# Altium schematic symbol library TOTUDU.SCHLIB: 75 symbols (part 1 of 2)
Pins are listed as number, name and electrical type; pins without a type are passive.

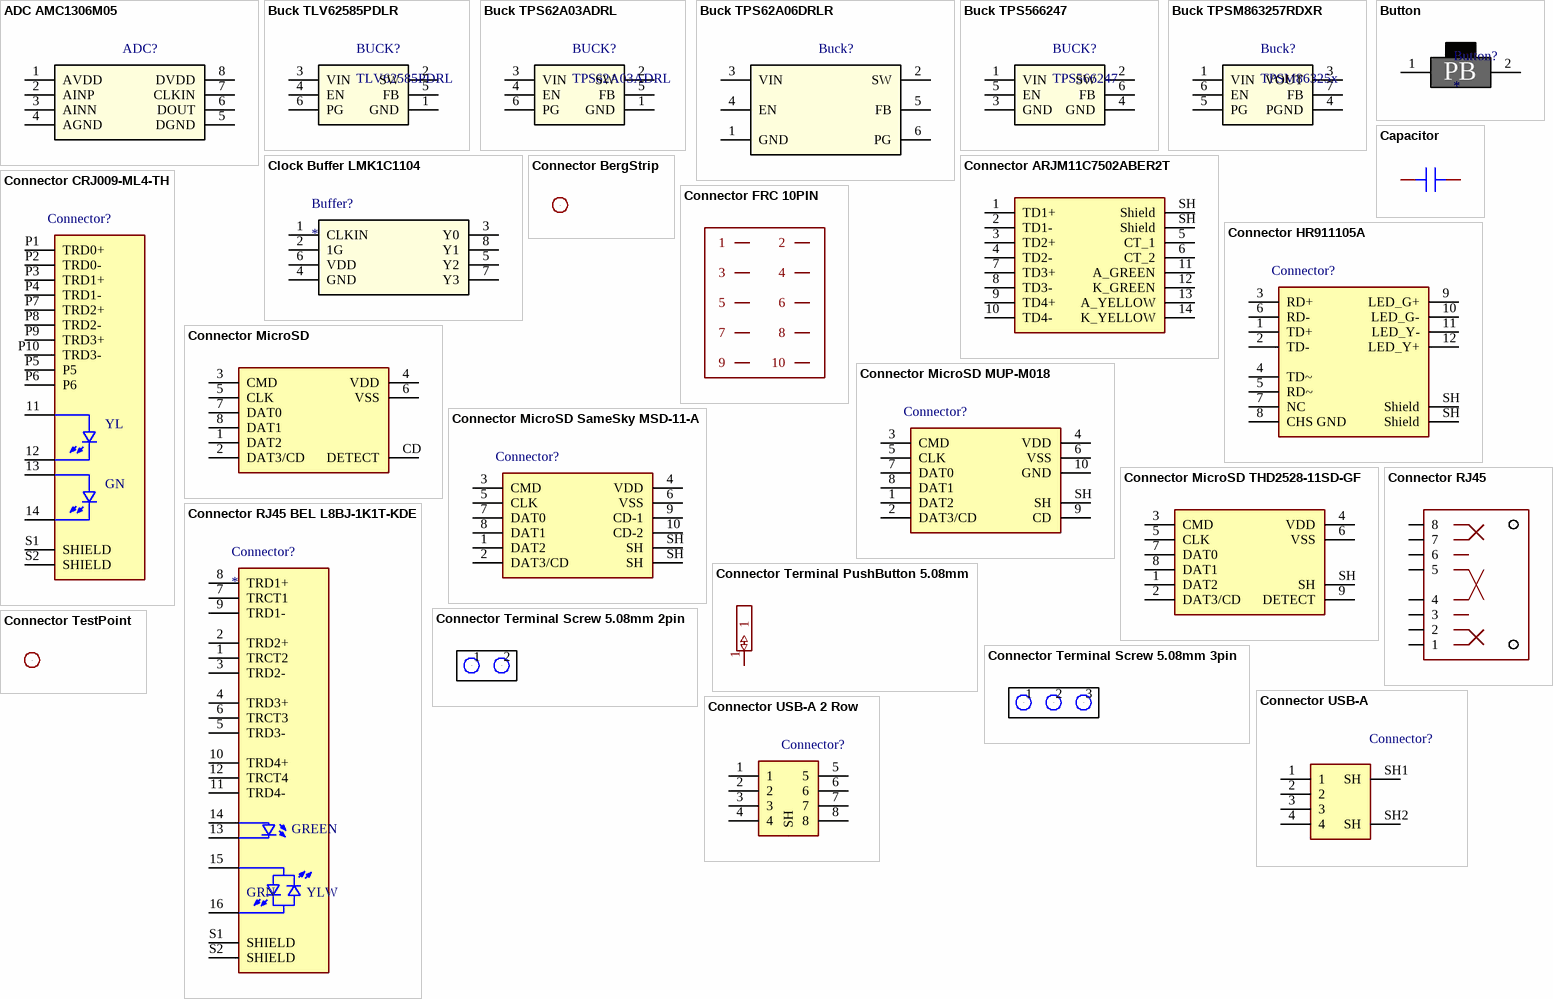
[diagram p0: symbols ADC AMC1306M05 to Connector USB-A 2 Row]

## ADC AMC1306M05
designator ADC?
Isolated Delta-Sigm; Manufacturer_Name: Texas Instruments; Manufacturer_Part_Number: AMC1306M05DWV; TYPE: TYPE; RefDes: RefDes; Copyright: Copyright (C) 2025 Ultra Librarian. All rights reserved.; Datasheet: https://www.ti.com/lit/gpn/amc1306m05
footprint AMC1306M05
pins: 1 AVDD, 2 AINP, 3 AINN, 4 AGND, 5 DGND, 6 DOUT, 7 CLKIN, 8 DVDD

## Buck TLV62585PDLR
designator BUCK?, comment TLV62585PDRL
Buck 3A 1500Mhz; Manufacturer_Name: Texas Instruments; Manufacturer_Part_Number: XTPS566247DRLR; Price: Rs. 24
footprint TPS62A03ADLR
pins: 1 GND, 2 SW, 3 VIN, 4 EN, 5 FB, 6 PG

## Buck TPS62A03ADRL
designator BUCK?, comment TPS62A03ADRL
Buck 3A 2200Mhz; Manufacturer_Name: Texas Instruments; Manufacturer_Part_Number: XTPS566247DRLR; Price: Rs. 21
footprint TPS62A03ADLR
pins: 1 GND, 2 SW, 3 VIN, 4 EN, 5 FB, 6 PG

## Buck TPS62A06DRLR
designator Buck?
Buck Converter; Mfr_Name: Texas Instruments; TYPE: TYPE; RefDes: RefDes
footprint Buck TPS62A06DRLR
pins: 1 GND, 2 SW, 3 VIN, 4 EN, 5 FB, 6 PG

## Buck TPS566247
designator BUCK?, comment TPS566247
Buck 6A; Manufacturer_Name: Texas Instruments; Manufacturer_Part_Number: XTPS566247DRLR
footprint TPS566247DRLR
pins: 1 VIN, 2 SW, 3 GND, 4 GND, 5 EN, 6 FB

## Buck TPSM863257RDXR
designator Buck?, comment TPSM86325x
Buck Module 3A; Manufacturer_Name: Texas Instruments; Manufacturer_Part_Number: PTPSM863257RDXR; Datasheet: https://www.ti.com/lit/gpn/tpsm863257
footprint TPSM863257RDXR
pins: 1 VIN (power), 3 VOUT (power), 4 PGND (power), 5 PG (oc), 6 EN, 7 FB

## Button
designator Button?
footprint PushButton PBS-06-112-25
footprint PushButton TSB008A25
pins: 1, 2
text: PB

## Capacitor
designator C?
Capacitor
footprint Capacitor 2012(0805)
footprint Capacitor 1608(0603)
footprint Capacitor 1005(0402)
footprint Capacitor 6.3x7.7
pins: 1, 2

## Clock Buffer LMK1C1104
designator Buffer?
Clock Buffer; Mfr_Name: Texas Instruments; TYPE: TYPE; RefDes: RefDes
footprint LMK1C1104PWR
pins: 1 CLKIN, 2 1G, 3 Y0, 4 GND, 5 Y2, 6 VDD, 7 Y3, 8 Y1

## Connector ARJM11C7502ABER2T
designator Connector?
RJ45 With Magnetics 10/100/1000Mbps; Manufacturer_Name: ABRACON; Manufacturer_Part_Number: ARJM11C7-502-AB-ER2-T; Datasheet Link: https://abracon.com/Magnetics/ARJM11.pdf; Height: 13.7mm; Mouser Part Number: 815-RJM11C7502ABER2T; Mouser Price/Stock: https://www.mouser.co.uk/ProductDetail/ABRACON/ARJM11C7-502-AB-ER2-T?qs=YCa%2FAAYMW01Li4L1TO4qtw%3D%3D; Arrow Part Number: ARJM11C7-502-AB-ER2-T; Arrow Price/Stock: https://www.arrow.com/en/products/arjm11c7-502-ab-er2-t/abracon?utm_currency=USD&region=nac
footprint ARJM11C7502ABER2T
pins: 1 TD1+, 2 TD1-, 3 TD2+, 4 TD2-, 5 CT_1, 6 CT_2, 7 TD3+, 8 TD3-, 9 TD4+, 10 TD4-, 11 A_GREEN, 12 K_GREEN, 13 A_YELLOW, 14 K_YELLOW, SH Shield, SH Shield

## Connector BergStrip
designator Connector?
BergStrip
footprint BergStrip 2.00mm
footprint BergStrip 2.54mm
pins: 1 Pin

## Connector CRJ009-ML4-TH
designator Connector?
RJ45 With Magnetics 10/100/1000Mbps; MP: CRJ009-ML4-TH; MF: {'manufacturer': u'CUI'}; Price: None; Package: None; Availability: Unavailable; Value: *
footprint MagJack 8P9C (CRJ009-ML4-TH)
pins: 11, 12, 13, 14, P1 TRD0+, P2 TRD0-, P3 TRD1+, P4 TRD1-, P5, P6, P7 TRD2+, P8 TRD2-, P9 TRD3+, P10 TRD3-, S1 SHIELD, S2 SHIELD
text: YL; GN

## Connector FRC 10PIN
designator FRC?
FRC 10 Pin; GateName_1: G$1; SymbolName_1: FRC_10PIN; LibraryName: TOTUDU; DeviceSetName: FRC_10PIN; Package: FRC_SOCKET_10PIN
footprint FRC_SOCKET_10PIN
pins: 1 (io), 2 (io), 3 (io), 4 (io), 5 (io), 6 (io), 7 (io), 8 (io), 9 (io), 10 (io)

## Connector HR911105A
designator Connector?
RJ45 With Magnetics 10/100Mbps
footprint RJ45 HR911105A
pins: 1 TD+, 2 TD-, 3 RD+, 4 TD~, 5 RD~, 6 RD-, 7 NC, 8 CHS GND, 9 LED_G+, 10 LED_G-, 11 LED_Y-, 12 LED_Y+, SH Shield, SH Shield

## Connector MicroSD
designator Connector?
MicroSD Slot; Manufacturer_Name: Hirose; Manufacturer_Part_Number: DM3AT-SF-PEJM5(40); Geometry.Height: 1.83mm; Mouser Part Number: 798-DM3AT-SF-PEJM540; Mouser Price/Stock: https://www.mouser.co.uk/ProductDetail/Hirose-Connector/DM3AT-SF-PEJM540?qs=0WLLhGLuJYzPvbo0KPPEoQ%3D%3D; Datasheet Link: https://componentsearchengine.com/Datasheets/2/DM3AT-SF-PEJM5(40).pdf
footprint MicroSD Connector
footprint MicroSD Connector MEM2085
pins: 1 DAT2, 2 DAT3/CD, 3 CMD, 4 VDD, 5 CLK, 6 VSS, 7 DAT0, 8 DAT1, CD DETECT

## Connector MicroSD MUP-M018
designator Connector?
MicroSD Slot
footprint MicroSD MUP-M018
pins: 1 DAT2, 2 DAT3/CD, 3 CMD, 4 VDD, 5 CLK, 6 VSS, 7 DAT0, 8 DAT1, 9 CD, 10 GND, SH

## Connector MicroSD SameSky MSD-11-A
designator Connector?
MicroSD Slot; Link: https://roboticsdna.in/product/micro-sd-card-socket-adapter-self-pop-up-memory-card-slot-holder-2-pcs/; Price: Rs. 11
footprint MicroSD SameSky MSD-11-A
pins: 1 DAT2, 2 DAT3/CD, 3 CMD, 4 VDD, 5 CLK, 6 VSS, 7 DAT0, 8 DAT1, 9 CD-1, 10 CD-2, SH, SH

## Connector MicroSD THD2528-11SD-GF
designator Connector?
MicroSD Slot; Manufacturer_Name: Hirose; Manufacturer_Part_Number: DM3AT-SF-PEJM5(40); Geometry.Height: 1.83mm; Mouser Part Number: 798-DM3AT-SF-PEJM540; Mouser Price/Stock: https://www.mouser.co.uk/ProductDetail/Hirose-Connector/DM3AT-SF-PEJM540?qs=0WLLhGLuJYzPvbo0KPPEoQ%3D%3D; Datasheet Link: https://componentsearchengine.com/Datasheets/2/DM3AT-SF-PEJM5(40).pdf
footprint MicroSD Connector THD2528-11SD-GF
pins: 1 DAT2, 2 DAT3/CD, 3 CMD, 4 VDD, 5 CLK, 6 VSS, 7 DAT0, 8 DAT1, 9 DETECT, SH

## Connector RJ45
designator Connector?
8P8C Generic Robu.in RoboticsDNA; GateName_1: JP1; SymbolName_1: RJ45; DeviceName: NOSHIELD; LibraryName: TOTUDU; DeviceSetName: RJ45; Package: RJ45-NOSHIELD
footprint RJ45-8P8C Generic (Robu.in RoboticsDNA)
pins: 1, 2, 3, 4, 5, 6, 7, 8, SH1, SH2

## Connector RJ45 BEL L8BJ-1K1T-KDE
designator Connector?
RJ45 With Magnetics 10/100/1000Mbps; MP: L8BJ-1K1T-KDE; Package: None; Price: None; Value: *; Availability: Unavailable
footprint MagJack 8P12C (BEL L8BJ-1K1T-KDE)
pins: 1 TRCT2, 2 TRD2+, 3 TRD2-, 4 TRD3+, 5 TRD3-, 6 TRCT3, 7 TRCT1, 8 TRD1+, 9 TRD1-, 10 TRD4+, 11 TRD4-, 12 TRCT4, 13, 14, 15, 16, S1 SHIELD, S2 SHIELD
text: GREEN; GRN; YLW

## Connector Terminal PushButton 5.08mm
designator Connector?
Terminal PushButton 5.08mm; GateName_1: G$1; SymbolName_1: TERMINAL1X1; DeviceName: STACKED; DeviceSetName: PUSHFIT5.08; LibraryName: TOTUDU; Package: PUSHFITSTACKED5.08
footprint Terminal PushButton 5.08mm Stacked
footprint Terminal PushButton 5.08mm Single
pins: 1 (io)

## Connector Terminal Screw 5.08mm 2pin
designator Connector?
Terminal Screw 5.08mm; GateName_1: G$1; SymbolName_1: TERMINALBLOCK1X2; DeviceSetName: TERMINALBLOCK-1X2; LibraryName: TOTUDU; Package: SCREWTERMINAL1X2
footprint Terminal Screw 5.08mm 2pin
pins: 1, 2

## Connector Terminal Screw 5.08mm 3pin
designator Connector?
Terminal Screw 5.08mm; GateName_1: G$1; SymbolName_1: TERMINALBLOCK1X2; DeviceSetName: TERMINALBLOCK-1X2; LibraryName: TOTUDU; Package: SCREWTERMINAL1X2
footprint Terminal Screw 5.08mm 3pin (Footprint not found)
pins: 1, 2, 3

## Connector TestPoint
designator Connector?
TestPoint
footprint TestPoint
pins: 1 Pin

## Connector USB-A
designator Connector?
Connector USB-A; Manufacturer_Name: TE Connectivity; Manufacturer_Part_Number: 292303-3; Geometry.Height: 7.01mm; Mouser Part Number: 571-292303-3; Mouser Price/Stock: https://www.mouser.co.uk/ProductDetail/TE-Connectivity/292303-3?qs=G%2F5vCLrg9vxY8f06bslZ%252Bw%3D%3D; Datasheet Link: https://www.arrow.com/en/products/292303-3/te-connectivity
footprint Connector USB-A
pins: 1, 2, 3, 4, SH1 SH, SH2 SH

## Connector USB-A 2 Row
designator Connector?
Connector USB-A 2 Row; Manufacturer_Name: Wurth Elektronik; Manufacturer_Part_Number: 61400826021; Datasheet Link: https://katalog.we-online.com/em/datasheet/61400826021.pdf; Mouser Part Number: 710-61400826021; Mouser Price/Stock: https://www.mouser.co.uk/ProductDetail/Wurth-Elektronik/61400826021?qs=rS3zZhy2AQNRjP3Vs%2FPxTg%3D%3D
footprint Connector USB-A 2 Row
pins: 1, 2, 3, 4, 5, 6, 7, 8, SH

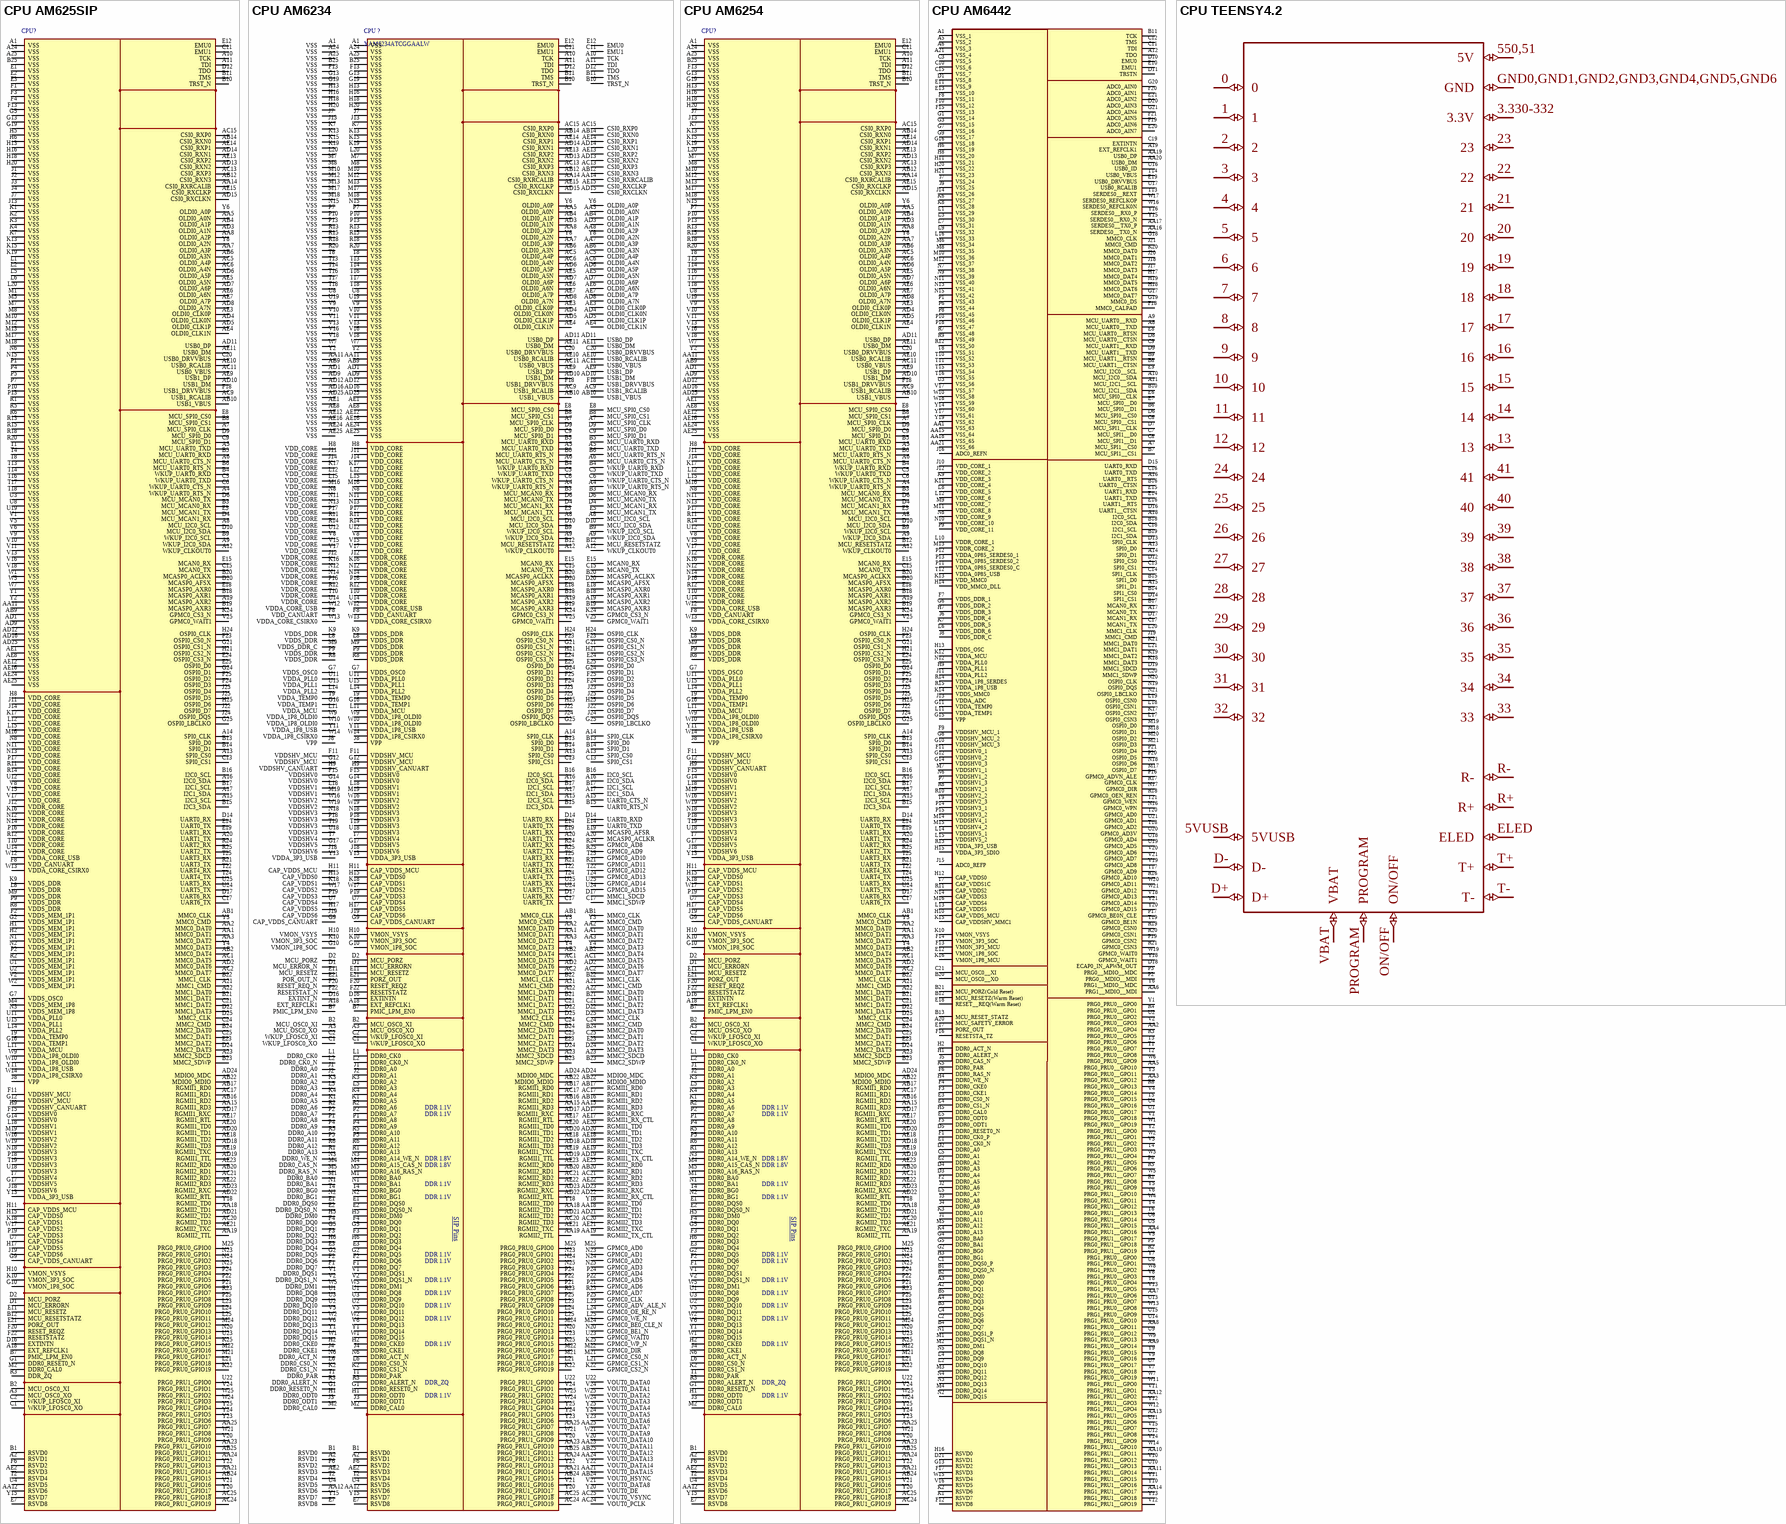
[diagram p1: symbols CPU AM625SIP to CPU TEENSY4.2]

## CPU AM625SIP
designator CPU?
Quad Core A53 512MB RAM; ComponentLink1Description: Link; ComponentLink1URL: https://www.ti.com/product/AM625SIP; Price: Rs. 3113
footprint AM625SIP
pins: A1 VSS, A2 RSVD1, A3 MCU_OSC0_XO, A4 WKUP_UART0_RTS_N, A5 MCU_UART0_TXD, A6 MCU_UART0_CTS_N, A7 MCU_SPI0_CLK, A8 MCU_I2C0_SCL, A9 WKUP_I2C0_SDA, A10 TCK, A11 TDI, A12 WKUP_CLKOUT0, A13 SPI0_CS0, A14 SPI0_CLK, A15 I2C3_SCL, A16 I2C0_SDA, A17 I2C1_SDA, A18 EXT_REFCLK1, A19 MCASP0_AXR2, A20 UART1_TX, A21 MMC1_CMD, A22 MMC1_DAT0, A23 MMC2_SDCD, A24 VSS, A25 VSS, AA1 MMC0_DAT1, AA2 MMC0_DAT0, AA3 MMC0_DAT2, AA5 OLDI0_A0N, AA7 OLDI0_A3P, AA8 OLDI0_A2P, AA11 VSS, AA12 RSVD6, AA14 CSI0_RXRCALIB, AA15 RGMII1_RD3, AA18 RGMII2_TD1, AA19 RGMII2_TTL, AA21 PRG0_PRU1_GPIO14, AA23 PRG0_PRU1_GPIO10, AA24 PRG0_PRU1_GPIO12, AA25 PRG0_PRU1_GPIO7, AB1 MMC0_CLK, AB2 MMC0_DAT4, AB4 OLDI0_A1P, AB6 OLDI0_A3N, AB9 VSS, AB10 USB1_VBUS, AB12 CSI0_RXN3, AB14 CSI0_RXN0, AB16 RGMII1_RD2, AB17 RGMII1_RD0, AB20 RGMII2_RD1, AB22 MDIO0_MDIO, AB24 PRG0_PRU1_GPIO15, AB25 PRG0_PRU1_GPIO11, AC1 MMC0_DAT5, AC2 MMC0_DAT7, AC5 OLDI0_A4P, AC6 OLDI0_A4N, AC9 USB1_RCALIB, AC11 USB0_VBUS, AC13 CSI0_RXP3, AC15 CSI0_RXP0, AC17 RGMII1_RD1, AC20 RGMII2_TD3, AC21 RGMII2_RD2, AC24 PRG0_PRU1_GPIO19, AC25 PRG0_PRU1_GPIO1~{8}, AD1 VSS, AD2 MMC0_DAT6, AD3 OLDI0_A1N, AD4 OLDI0_CLK0N, AD5 OLDI0_CLK1P, AD6 OLDI0_A5P, AD7 OLDI0_A6P, AD8 OLDI0_A7N, AD9 VSS, AD10 USB1_DM, AD11 USB0_DP, AD12 VSS, AD13 CSI0_RXN2, AD14 CSI0_RXN1, AD15 CSI0_RXCLKN, AD16 VSS, AD17 RGMII1_RXC, AD18 RGMII1_TD3, AD19 RGMII1_TTL, AD20 RGMII1_TD1, AD21 RGMII2_TD2, AD22 RGMII2_RTL, AD23 RGMII2_RXC, AD24 MDIO0_MDC, AD25 VSS, AE1 VSS, AE2 RSVD3, AE3 OLDI0_CLK0P, AE4 OLDI0_CLK1N, AE5 OLDI0_A5N, AE6 OLDI0_A6N, AE7 OLDI0_A7P, AE8 VSS, AE9 USB1_DP, AE10 USB0_RCALIB, AE11 USB0_DM, AE12 VSS, AE13 CSI0_RXP2, AE14 CSI0_RXP1, AE15 CSI0_RXCLKP, AE16 VSS, AE17 RGMII1_RTL, AE18 RGMII1_TD2, AE19 RGMII1_TXC, AE20 RGMII1_TD0, AE21 RGMII2_TXC, AE22 RGMII2_RD3, AE23 RGMII2_RD0, AE24 VSS, AE25 VSS, B1 RSVD0, B2 MCU_OSC0_XI, B3 MCU_MCAN0_RX, B4 WKUP_UART0_RXD, B5 MCU_UART0_RXD, B6 MCU_UART0_RTS_N, B7 PMIC_LPM_EN0, B8 MCU_SPI0_CS1, B9 WKUP_I2C0_SCL, B10 TRST_N, B11 TMS, B12 MCU_RESETSTATZ, B13 SPI0_D0, B14 SPI0_D1, B15 I2C3_SDA, B16 I2C0_SCL, B17 I2C1_SCL, B18 MCASP0_AXR1, B19 MCASP0_AXR3, B20 MCASP0_ACLKX, B21 MMC1_DAT1, B22 MMC1_CLK, B23 MMC2_SDWP, B24 MMC2_DAT0, B25 VSS, C1 WKUP_LFOSC0_XO, C2 WKUP_LFOSC0_XI, C5 WKUP_UART0_TXD, C6 WKUP_UART0_CTS_N, C9 MCU_SPI0_D1, C11 EMU1, C13 SPI0_CS1, C15 MCAN0_TX, C17 UART6_TX, C20 USB0_DRVVBUS, C21 MMC1_DAT2, C24 MMC2_CMD, C25 MMC2_DAT1, D1 MCU_ERRORN, D2 MCU_PORZ, D4 MCU_MCAN1_RX, D6 MCU_MCAN0_TX, D9 MCU_SPI0_D0, D10 MCU_I2C0_SDA, D12 TDO, D14 UART0_RX, D16 EXTINTN, D17 UART6_RX, D20 MCASP0_AFSX, D22 MMC1_DAT3, D24 MMC2_DAT3, D25 MMC2_CLK, E1 VSS, E2 VSS, E3 VSS, E5 MCU_MCAN1_TX, E7 RSVD8, E8 MCU_SPI0_CS0, E11 MCU_RESETZ, E12 EMU0, E14 UART0_TX, E15 MCAN0_RX, E18 MCASP0_AXR0, E19 UART1_RX, E21 PORZ_OUT, E23 MMC2_DAT2, E24 OSPI0_CS3_N, E25 OSPI0_D0, F1 VSS, F2 VDDS_MEM_1P1, F3 VSS, F4 VSS, F6 RSVD2, F8 VDD_CANUART, F11 VDDSHV_MCU, F13 VSS, F15 VDDSHV0, F18 USB1_DRVVBUS, F20 RESET_REQZ, F22 RESETSTATZ, F23 OSPI0_CS0_N, F24 OSPI0_D3, F25 OSPI0_D2, G1 DDR0_RESET0_N, G2 VDDS_MEM_1P1, G5 VSS, G7 VDDS_OSC0, G9 CAP_VDDS_CANUART, G10 VMON_1P8_SOC, G12 VDDSHV_MCU, G13 VSS, G14 VDDSHV0, G16 VDDA_TEMP1, G17 VDDSHV5, G19 VSS, G21 OSPI0_CS1_N, G24 OSPI0_D1, G25 OSPI0_LBCLKO, H1 VDDS_MEM_1P1, H2 VDDS_MEM_1P1, H5 VSS, H6 VSS, H8 VDD_CORE, H9 VDDSHV_CANUART, H10 VMON_VSYS, H11 CAP_VDDS_MCU, H13 VSS, H15 CAP_VDDS0, H16 VSS, H17 CAP_VDDS5, H18 VSS, H20 VSS, H21 OSPI0_CS2_N, H24 OSPI0_CLK, H25 OSPI0_D6, J1 VSS, J2 VSS, J3 VSS, J4 VSS, J7 VSS, J8 VPP, J11 VDD_CORE, J12 VDDR_CORE, J13 VSS, J14 VDD_CORE, J18 VDDSHV6, J19 CAP_VDDS6, J22 OSPI0_D7, J23 OSPI0_D4, J24 OSPI0_DQS, J25 OSPI0_D5, K1 VSS, K2 VSS, K3 VSS, K4 VSS, K7 VSS, K9 VDDS_DDR, K10 VMON_3P3_SOC, K13 VSS, K15 VSS, K16 VDDR_CORE, K17 VDD_CORE, K18 CAP_VDDS1, K19 VSS, K22 PRG0_PRU0_GPIO19, K24 GPMC0_CS3_N, K25 PRG0_PRU0_GPIO15, L1 VSS, L2 VSS, L5 VSS, L6 VSS, L8 VDDS_DDR, L11 VDDA_MCU, L12 VDD_CORE, L14 VDDA_PLL2, L15 VDD_CORE, L18 VDDSHV1, L20 VSS, L21 PRG0_PRU0_GPIO18, L23 PRG0_PRU0_GPIO9, L24 PRG0_PRU0_GPIO10, L25 PRG0_PRU0_GPIO11, M1 VSS, M2 DDR0_CAL0, M4 VDDS_MEM_1P8, M5 VSS, M7 VSS, M8 VSS, M9 VDDS_DDR, M10 VSS, M12 VSS, M13 VSS, M16 VDD_CORE, M17 VSS, M18 VSS, M19 VDDSHV1, M21 PRG0_PRU0_GPIO17, M22 PRG0_PRU0_GPIO16, M24 PRG0_PRU0_GPIO12, M25 PRG0_PRU0_GPIO0, N1 VDDS_MEM_1P1, N2 VDDS_MEM_1P1, N3 VDDS_MEM_1P8, N6 VSS, N8 VDD_CORE, N11 VDD_CORE, N12 VDDR_CORE, N13 VDD_CORE, N14 VDDR_CORE, N15 VSS, N18 VDDSHV3, N20 PRG0_PRU0_GPIO13, N23 PRG0_PRU0_GPIO1, N24 PRG0_PRU0_GPIO2, N25 PRG0_PRU0_GPIO3, P1 VSS, P2 VDDS_MEM_1P1, P4 VSS, P5 VSS, P7 VSS, P9 VDDS_DDR, P10 VSS, P13 VSS, P16 VDDR_CORE, P17 VDD_CORE, P18 VDDSHV3, P19 CAP_VDDS3, P21 PRG0_PRU0_GPIO6, P22 PRG0_PRU0_GPIO5, P24 PRG0_PRU0_GPIO4, P25 PRG0_PRU0_GPIO8, R1 VSS, R2 VDDS_MEM_1P1, R3 DDR_ZQ, R5 VSS, R6 VSS, R8 VDDS_DDR, R11 VDD_CORE, R12 VDDR_CORE, R13 VSS, R14 VDD_CORE, R15 VSS, R18 VSS, R20 VSS, R21 UART3_TX, R23 PRG0_PRU0_GPIO7, R24 UART2_RX, R25 UART2_TX, T1 VSS, T2 RSVD4, T4 VSS, T7 VDDSHV4, T8 VSS, T9 VDDA_TEMP0, T10 VDDR_CORE, T13 VSS, T14 VSS, T16 VSS, T17 VSS, T18 VSS, T19 VDDSHV3, T22 UART4_RX, T24 UART4_TX, T25 UART3_RX, U1 VDDS_MEM_1P1, U2 VDDS_MEM_1P1, U3 VSS, U4 RSVD5, U7 CAP_VDDS4, U8 VSS, U11 VDDA_PLL0, U12 VDD_CORE, U14 VDDR_CORE, U15 VDDA_PLL1, U18 VDDSHV3, U19 VSS, U22 PRG0_PRU1_GPIO0, U23 PRG0_PRU0_GPIO14, U24 UART5_TX, U25 UART5_RX, V1 VSS, V2 VDDS_MEM_1P1, V5 VSS, V6 VSS, V8 VDD_CORE, V9 VSS, V10 VSS, V11 VSS, V13 VSS, V15 VDD_CORE, V16 VSS, V17 VDD_CORE, V18 VSS, V20 PRG0_PRU1_GPIO9, V21 PRG0_PRU1_GPIO16, V24 PRG0_PRU1_GPIO1, V25 GPMC0_WAIT1, W1 VSS, W2 VDDS_MEM_1P1, W5 VSS, W7 VSS, W9 VDDA_1P8_OLDI0, W10 VDDA_1P8_OLDI0, W12 VDDA_CORE_USB, W13 VDDA_CORE_CSIRX0, W14 VDDA_1P8_CSIRX0, W16 VDDSHV2, W17 CAP_VDDS2, W19 VDDSHV2, W21 PRG0_PRU1_GPIO8, W24 PRG0_PRU1_GPIO3, W25 PRG0_PRU1_GPIO2, Y1 VSS, Y2 VSS, Y3 MMC0_CMD, Y4 MMC0_DAT3, Y6 OLDI0_A0P, Y8 OLDI0_A2N, Y11 VDDA_1P8_USB, Y13 VDDA_3P3_USB, Y15 RSVD7, Y18 RGMII2_TD0, Y20 PRG0_PRU1_GPIO17, Y22 PRG0_PRU1_GPIO13, Y23 PRG0_PRU1_GPIO6, Y24 PRG0_PRU1_GPIO5, Y25 PRG0_PRU1_GPIO4

## CPU AM6234
designator CPU ?, comment XAM6234ATCGGAALW
Dual Core A53; Manufacturer_Name: Texas Instruments; Manufacturer_Part_Number: XAM6234ATCGGAALW; Price: Rs. 1612
footprint AM6234
pins: A1 VSS, A1 VSS (power), A2 RSVD1, A2 RSVD1, A3 MCU_OSC0_XO, A3 MCU_OSC0_XO, A4 WKUP_UART0_RTS_N, A4 WKUP_UART0_RTS_N, A5 MCU_UART0_TXD, A5 MCU_UART0_TXD, A6 MCU_UART0_CTS_N, A6 MCU_UART0_CTS_N, A7 MCU_SPI0_CLK, A7 MCU_SPI0_CLK, A8 MCU_I2C0_SCL, A8 MCU_I2C0_SCL, A9 WKUP_I2C0_SDA, A9 WKUP_I2C0_SDA, A10 TCK, A10 TCK, A11 TDI, A11 TDI, A12 WKUP_CLKOUT0, A12 WKUP_CLKOUT0, A13 SPI0_CS0, A13 SPI0_CS0, A14 SPI0_CLK, A14 SPI0_CLK, A15 UART0_CTS_N, A15 I2C3_SCL, A16 I2C0_SDA, A16 I2C0_SDA, A17 I2C1_SDA, A17 I2C1_SDA, A18 EXT_REFCLK1, A18 EXT_REFCLK1, A19 MCASP0_AXR2, A19 MCASP0_AXR2, A20 MCASP0_ACLKR, A20 UART1_TX, A21 MMC1_CMD, A21 MMC1_CMD, A22 MMC1_DAT0, A22 MMC1_DAT0, A23 MMC2_SDCD, A23 MMC2_SDCD, A24 VSS, A24 VSS (power), A25 VSS, A25 VSS (power), AA1 MMC0_DAT1, AA1 MMC0_DAT1, AA2 MMC0_DAT0, AA2 MMC0_DAT0, AA3 MMC0_DAT2, AA3 MMC0_DAT2, AA5 OLDI0_A0N, AA5 OLDI0_A0N, AA7 OLDI0_A3P, AA7 OLDI0_A3P, AA8 OLDI0_A2P, AA8 OLDI0_A2P, AA11 VSS, AA11 VSS (power), AA12 RSVD6, AA12 RSVD6, AA14 CSI0_RXRCALIB, AA14 CSI0_RXRCALIB, AA15 RGMII1_RD3, AA15 RGMII1_RD3, AA18 RGMII2_TD1, AA18 RGMII2_TD1, AA19 RGMII2_TX_CTL, AA19 RGMII2_TTL, AA21 VOUT0_DATA15, AA21 PRG0_PRU1_GPIO14, AA23 VOUT0_DATA11, AA23 PRG0_PRU1_GPIO10, AA24 VOUT0_DATA13, AA24 PRG0_PRU1_GPIO12, AA25 VOUT0_DATA7, AA25 PRG0_PRU1_GPIO7, AB1 MMC0_CLK, AB1 MMC0_CLK, AB2 MMC0_DAT4, AB2 MMC0_DAT4, AB4 OLDI0_A1P, AB4 OLDI0_A1P, AB6 OLDI0_A3N, AB6 OLDI0_A3N, AB9 VSS, AB9 VSS (power), AB10 USB1_VBUS, AB10 USB1_VBUS, AB12 CSI0_RXN3, AB12 CSI0_RXN3, AB14 CSI0_RXN0, AB14 CSI0_RXN0, AB16 RGMII1_RD2, AB16 RGMII1_RD2, AB17 RGMII1_RD0, AB17 RGMII1_RD0, AB20 RGMII2_RD1, AB20 RGMII2_RD1, AB22 MDIO0_MDIO, AB22 MDIO0_MDIO, AB24 VOUT0_HSYNC, AB24 PRG0_PRU1_GPIO15, AB25 VOUT0_DATA12, AB25 PRG0_PRU1_GPIO11, AC1 MMC0_DAT5, AC1 MMC0_DAT5, AC2 MMC0_DAT7, AC2 MMC0_DAT7, AC5 OLDI0_A4P, AC5 OLDI0_A4P, AC6 OLDI0_A4N, AC6 OLDI0_A4N, AC9 USB1_RCALIB, AC9 USB1_RCALIB, AC11 USB0_VBUS, AC11 USB0_VBUS, AC13 CSI0_RXP3, AC13 CSI0_RXP3, AC15 CSI0_RXP0, AC15 CSI0_RXP0, AC17 RGMII1_RD1, AC17 RGMII1_RD1, AC20 RGMII2_TD3, AC20 RGMII2_TD3, AC21 RGMII2_RD2, AC21 RGMII2_RD2, AC24 VOUT0_PCLK, AC24 PRG0_PRU1_GPIO19, AC25 VOUT0_VSYNC, AC25 PRG0_PRU1_GPIO1~{8}, AD1 VSS, AD1 VSS (power), AD2 MMC0_DAT6, AD2 MMC0_DAT6, AD3 OLDI0_A1N, AD3 OLDI0_A1N, AD4 OLDI0_CLK0N, AD4 OLDI0_CLK0N, AD5 OLDI0_CLK1P, AD5 OLDI0_CLK1P, AD6 OLDI0_A5P, AD6 OLDI0_A5P, AD7 OLDI0_A6P, AD7 OLDI0_A6P, AD8 OLDI0_A7N, AD8 OLDI0_A7N, AD9 VSS, AD9 VSS (power), AD10 USB1_DM, AD10 USB1_DM, AD11 USB0_DP, AD11 USB0_DP, AD12 VSS, AD12 VSS (power), AD13 CSI0_RXN2, AD13 CSI0_RXN2, AD14 CSI0_RXN1, AD14 CSI0_RXN1, AD15 CSI0_RXCLKN, AD15 CSI0_RXCLKN, AD16 VSS, AD16 VSS (power), AD17 RGMII1_RXC, AD17 RGMII1_RXC, AD18 RGMII1_TD3, AD18 RGMII1_TD3, AD19 RGMII1_TX_CTL, AD19 RGMII1_TTL, AD20 RGMII1_TD1, AD20 RGMII1_TD1, AD21 RGMII2_TD2, AD21 RGMII2_TD2, AD22 RGMII2_RX_CTL, AD22 RGMII2_RTL, AD23 RGMII2_RXC, AD23 RGMII2_RXC, AD24 MDIO0_MDC, AD24 MDIO0_MDC, AD25 VSS, AD25 VSS (power), AE1 VSS, AE1 VSS (power), AE2 RSVD3, AE2 RSVD3, AE3 OLDI0_CLK0P, AE3 OLDI0_CLK0P, AE4 OLDI0_CLK1N, AE4 OLDI0_CLK1N, AE5 OLDI0_A5N, AE5 OLDI0_A5N, AE6 OLDI0_A6N, AE6 OLDI0_A6N, AE7 OLDI0_A7P, AE7 OLDI0_A7P, AE8 VSS, AE8 VSS (power), AE9 USB1_DP, AE9 USB1_DP, AE10 USB0_RCALIB, AE10 USB0_RCALIB, AE11 USB0_DM, AE11 USB0_DM, AE12 VSS, AE12 VSS (power), AE13 CSI0_RXP2, AE13 CSI0_RXP2, AE14 CSI0_RXP1, AE14 CSI0_RXP1, AE15 CSI0_RXCLKP, AE15 CSI0_RXCLKP, AE16 VSS, AE16 VSS (power), AE17 RGMII1_RX_CTL, AE17 RGMII1_RTL, AE18 RGMII1_TD2, AE18 RGMII1_TD2, AE19 RGMII1_TXC, AE19 RGMII1_TXC, AE20 RGMII1_TD0, AE20 RGMII1_TD0, AE21 RGMII2_TXC, AE21 RGMII2_TXC, AE22 RGMII2_RD3, AE22 RGMII2_RD3, AE23 RGMII2_RD0, AE23 RGMII2_RD0, AE24 VSS, AE24 VSS (power), AE25 VSS, AE25 VSS (power), B1 RSVD0, B1 RSVD0, B2 MCU_OSC0_XI, B2 MCU_OSC0_XI, B3 MCU_MCAN0_RX, B3 MCU_MCAN0_RX, B4 WKUP_UART0_RXD, B4 WKUP_UART0_RXD, B5 MCU_UART0_RXD, B5 MCU_UART0_RXD, B6 MCU_UART0_RTS_N, B6 MCU_UART0_RTS_N, B7 PMIC_LPM_EN0, B7 PMIC_LPM_EN0, B8 MCU_SPI0_CS1, B8 MCU_SPI0_CS1, B9 WKUP_I2C0_SCL, B9 WKUP_I2C0_SCL, B10 TRST_N, B10 TRST_N, B11 TMS, B11 TMS, B12 MCU_RESETSTATZ, B12 MCU_RESETSTATZ, B13 SPI0_D0, B13 SPI0_D0, B14 SPI0_D1, B14 SPI0_D1, B15 UART0_RTS_N, B15 I2C3_SDA, B16 I2C0_SCL, B16 I2C0_SCL, B17 I2C1_SCL, B17 I2C1_SCL, B18 MCASP0_AXR1, B18 MCASP0_AXR1, B19 MCASP0_AXR3, B19 MCASP0_AXR3, B20 MCASP0_ACLKX, B20 MCASP0_ACLKX, B21 MMC1_DAT1, B21 MMC1_DAT1, B22 MMC1_CLK, B22 MMC1_CLK, B23 MMC2_SDWP, B23 MMC2_SDWP, B24 MMC2_DAT0, B24 MMC2_DAT0, B25 VSS, B25 VSS (power), C1 WKUP_LFOSC0_XO, C1 WKUP_LFOSC0_XO, C2 WKUP_LFOSC0_XI, C2 WKUP_LFOSC0_XI, C5 WKUP_UART0_TXD, C5 WKUP_UART0_TXD, C6 WKUP_UART0_CTS_N, C6 WKUP_UART0_CTS_N, C9 MCU_SPI0_D1, C9 MCU_SPI0_D1, C11 EMU1, C11 EMU1, C13 SPI0_CS1, C13 SPI0_CS1, C15 MCAN0_TX, C15 MCAN0_TX, C17 MMC1_SDWP, C17 UART6_TX, C20 USB0_DRVVBUS, C20 USB0_DRVVBUS, C21 MMC1_DAT2, C21 MMC1_DAT2, C24 MMC2_CMD, C24 MMC2_CMD, C25 MMC2_DAT1, C25 MMC2_DAT1, D1 MCU_ERROR_N, D1 MCU_ERRORN, D2 MCU_PORZ, D2 MCU_PORZ, D4 MCU_MCAN1_RX, D4 MCU_MCAN1_RX, D6 MCU_MCAN0_TX, D6 MCU_MCAN0_TX, D9 MCU_SPI0_D0, D9 MCU_SPI0_D0, D10 MCU_I2C0_SDA, D10 MCU_I2C0_SDA, D12 TDO, D12 TDO, D14 UART0_RXD, D14 UART0_RX, D16 EXTINT_N, D16 EXTINTN, D17 MMC1_SDCD, D17 UART6_RX, D20 MCASP0_AFSX, D20 MCASP0_AFSX, D22 MMC1_DAT3, D22 MMC1_DAT3, D24 MMC2_DAT3, D24 MMC2_DAT3, D25 MMC2_CLK, D25 MMC2_CLK, E1 DDR0_DQS0, E1 DDR0_DQS0, E2 DDR0_DQS0_N, E2 DDR0_DQS0_N, E3 DDR0_DQ4, E3 DDR0_DQ4, E5 MCU_MCAN1_TX, E5 MCU_MCAN1_TX, E7 RSVD8, E7 RSVD8, E8 MCU_SPI0_CS0, E8 MCU_SPI0_CS0, E11 MCU_RESETZ, E11 MCU_RESETZ, E12 EMU0, E12 EMU0, E14 UART0_TXD, E14 UART0_TX, E15 MCAN0_RX, E15 MCAN0_RX, E18 MCASP0_AXR0, E18 MCASP0_AXR0, E19 MCASP0_AFSR, E19 UART1_RX, E21 POR_OUT_N, E21 PORZ_OUT, E23 MMC2_DAT2, E23 MMC2_DAT2, E24 OSPI0_CS3_N, E24 OSPI0_CS3_N, E25 OSPI0_D0, E25 OSPI0_D0, F1 DDR0_DQ7, F1 DDR0_DQ7, F2 DDR0_DQ6, F2 DDR0_DQ6, F3 DDR0_DQ2, F3 DDR0_DQ2, F4 DDR0_DQ0, F4 DDR0_DQ0, F6 RSVD2, F6 RSVD2, F8 VDD_CANUART, F8 VDD_CANUART, F11 VDDSHV_MCU, F11 VDDSHV_MCU, F13 VSS, F13 VSS (power), F15 VDDSHV0, F15 VDDSHV0, F18 USB1_DRVVBUS, F18 USB1_DRVVBUS, F20 RESET_REQ_N, F20 RESET_REQZ, F22 RESETSTAT_N, F22 RESETSTATZ, F23 OSPI0_CS0_N, F23 OSPI0_CS0_N, F24 OSPI0_D3, F24 OSPI0_D3, F25 OSPI0_D2, F25 OSPI0_D2, G1 DDR0_RESET0_N, G1 DDR0_RESET0_N, G2 DDR0_DQ5, G2 DDR0_DQ5, G5 DDR0_DQ1, G5 DDR0_DQ1, G7 VDDS_OSC0, G7 VDDS_OSC0, G9 CAP_VDDS_CANUART, G9 CAP_VDDS_CANUART, G10 VMON_1P8_SOC, G10 VMON_1P8_SOC, G12 VDDSHV_MCU, G12 VDDSHV_MCU, G13 VSS, G13 VSS (power), G14 VDDSHV0, G14 VDDSHV0, G16 VDDA_TEMP1, G16 VDDA_TEMP1, G17 VDDSHV5, G17 VDDSHV5, G19 VSS, G19 VSS (power), G21 OSPI0_CS1_N, G21 OSPI0_CS1_N, G24 OSPI0_D1, G24 OSPI0_D1, G25 OSPI0_LBCLKO, G25 OSPI0_LBCLKO, H1 DDR0_ODT0, H1 DDR0_ODT0, H2 DDR0_CKE0, H2 DDR0_CKE0, H5 DDR0_DM0, H5 DDR0_DM0, H6 DDR0_DQ3, H6 DDR0_DQ3, H8 VDD_CORE, H8 VDD_CORE, H9 VDDSHV_CANUART, H9 VDDSHV_CANUART, H10 VMON_VSYS, H10 VMON_VSYS, H11 CAP_VDDS_MCU, H11 CAP_VDDS_MCU, H13 VSS, H13 VSS (power), H15 CAP_VDDS0, H15 CAP_VDDS0, H16 VSS, H16 VSS (power), H17 CAP_VDDS5, H17 CAP_VDDS5, H18 VSS, H18 VSS (power), H20 VSS, H20 VSS (power), H21 OSPI0_CS2_N, H21 OSPI0_CS2_N, H24 OSPI0_CLK, H24 OSPI0_CLK, H25 OSPI0_D6, H25 OSPI0_D6, J1 DDR0_A0, J1 DDR0_A0, J2 DDR0_A1, J2 DDR0_A1, J3 DDR0_ODT1, J3 DDR0_ODT1, J4 DDR0_CKE1, J4 DDR0_CKE1, J7 VSS, J7 VSS (power), J8 VPP, J8 VPP, J11 VDD_CORE, J11 VDD_CORE, J12 VDDR_CORE, J12 VDDR_CORE, J13 VSS, J13 VSS (power), J14 VDD_CORE, J14 VDD_CORE, J18 VDDSHV6, J18 VDDSHV6, J19 CAP_VDDS6, J19 CAP_VDDS6, J22 OSPI0_D7, J22 OSPI0_D7, J23 OSPI0_D4, J23 OSPI0_D4, J24 OSPI0_DQS, J24 OSPI0_DQS, J25 OSPI0_D5, J25 OSPI0_D5, K1 DDR0_A5, K1 DDR0_A5, K2 DDR0_CS1_N, K2 DDR0_CS1_N, K3 DDR0_A2, K3 DDR0_A2, K4 DDR0_A4, K4 DDR0_A4, K7 VSS, K7 VSS (power), K9 VDDS_DDR, K9 VDDS_DDR, K10 VMON_3P3_SOC, K10 VMON_3P3_SOC, K13 VSS, K13 VSS (power), K15 VSS, K15 VSS (power), K16 VDDR_CORE, K16 VDDR_CORE, K17 VDD_CORE, K17 VDD_CORE, K18 CAP_VDDS1, K18 CAP_VDDS1, K19 VSS, K19 VSS (power), K22 GPMC0_CS2_N, K22 PRG0_PRU0_GPIO19, K24 GPMC0_CS3_N, K24 GPMC0_CS3_N, K25 GPMC0_WP_N, K25 PRG0_PRU0_GPIO15, L1 DDR0_CK0, L1 DDR0_CK0, L2 DDR0_CK0_N, L2 DDR0_CK0_N, L5 DDR0_A3, L5 DDR0_A3, L6 DDR0_CS0_N, L6 DDR0_CS0_N, L8 VDDS_DDR, L8 VDDS_DDR, L11 VDDA_MCU, L11 VDDA_MCU, L12 VDD_CORE, L12 VDD_CORE, L14 VDDA_PLL2, L14 VDDA_PLL2, L15 VDD_CORE, L15 VDD_CORE, L18 VDDSHV1, L18 VDDSHV1, L20 VSS, L20 VSS (power), L21 GPMC0_CS1_N, L21 PRG0_PRU0_GPIO18, L23 GPMC0_ADV_ALE_N, L23 PRG0_PRU0_GPIO9, L24 GPMC0_OE_RE_N, L24 PRG0_PRU0_GPIO10, L25 GPMC0_WE_N, L25 PRG0_PRU0_GPIO11, M1 DDR0_BA0, M1 DDR0_BA0, M2 DDR0_CAL0, M2 DDR0_CAL0, M4 DDR0_CAS_N, M4 DDR0_A15_CAS_N, M5 DDR0_RAS_N, M5 DDR0_A16_RAS_N, M7 VSS, M7 VSS (power), M8 VSS, M8 VSS (power), M9 VDDS_DDR_C, M9 VDDS_DDR, M10 VSS, M10 VSS (power), M12 VSS, M12 VSS (power), M13 VSS, M13 VSS (power), M16 VDD_CORE, M16 VDD_CORE, M17 VSS, M17 VSS (power), M18 VSS, M18 VSS (power), M19 VDDSHV1, M19 VDDSHV1, M21 GPMC0_CS0_N, M21 PRG0_PRU0_GPIO17, M22 GPMC0_DIR, M22 PRG0_PRU0_GPIO16, M24 GPMC0_BE0_CLE_N, M24 PRG0_PRU0_GPIO12, M25 GPMC0_AD0, M25 PRG0_PRU0_GPIO0, N1 DDR0_BA1, N1 DDR0_BA1, N2 DDR0_BG1, N2 DDR0_BG1, N3 DDR0_WE_N, N3 DDR0_A14_WE_N, N6 DDR0_ACT_N, N6 DDR0_ACT_N, N8 VDD_CORE, N8 VDD_CORE, N11 VDD_CORE, N11 VDD_CORE, N12 VDDR_CORE, N12 VDDR_CORE, N13 VDD_CORE, N13 VDD_CORE, N14 VDDR_CORE, N14 VDDR_CORE, N15 VSS, N15 VSS (power), N18 VDDSHV3, N18 VDDSHV3, N20 GPMC0_BE1_N, N20 PRG0_PRU0_GPIO13, N23 GPMC0_AD1, N23 PRG0_PRU0_GPIO1, N24 GPMC0_AD2, N24 PRG0_PRU0_GPIO2, N25 GPMC0_AD3, N25 PRG0_PRU0_GPIO3, P1 DDR0_A8, P1 DDR0_A8, P2 DDR0_A7, P2 DDR0_A7, P4 DDR0_A9, P4 DDR0_A9, P5 DDR0_A11, P5 DDR0_A11, P7 VSS, P7 VSS (power), P9 VDDS_DDR, P9 VDDS_DDR, P10 VSS, P10 VSS (power), P13 VSS, P13 VSS (power), P16 VDDR_CORE, P16 VDDR_CORE, P17 VDD_CORE, P17 VDD_CORE, P18 VDDSHV3, P18 VDDSHV3, P19 CAP_VDDS3, P19 CAP_VDDS3, P21 GPMC0_AD6, P21 PRG0_PRU0_GPIO6, P22 GPMC0_AD5, P22 PRG0_PRU0_GPIO5, P24 GPMC0_AD4, P24 PRG0_PRU0_GPIO4, P25 GPMC0_CLK, P25 PRG0_PRU0_GPIO8, R1 DDR0_A13, R1 DDR0_A13, R2 DDR0_A6, R2 DDR0_A6, R3 DDR0_ALERT_N, R3 DDR0_ALERT_N, R5 DDR0_A10, R5 DDR0_A10, R6 DDR0_A12, R6 DDR0_A12, R8 VDDS_DDR, R8 VDDS_DDR, R11 VDD_CORE, R11 VDD_CORE, R12 VDDR_CORE, R12 VDDR_CORE, R13 VSS, R13 VSS (power), R14 VDD_CORE, R14 VDD_CORE, R15 VSS, R15 VSS (power), R18 VSS, R18 VSS (power), R20 VSS, R20 VSS (power), R21 GPMC0_AD11, R21 UART3_TX, R23 GPMC0_AD7, R23 PRG0_PRU0_GPIO7, R24 GPMC0_AD8, R24 UART2_RX, R25 GPMC0_AD9, R25 UART2_TX, T1 DDR0_PAR, T1 DDR0_PAR, T2 RSVD4, T2 RSVD4, T4 DDR0_BG0, T4 DDR0_BG0, T7 VDDSHV4, T7 VDDSHV4, T8 VSS, T8 VSS (power), T9 VDDA_TEMP0, T9 VDDA_TEMP0, T10 VDDR_CORE, T10 VDDR_CORE, T13 VSS, T13 VSS (power), T14 VSS, T14 VSS (power), T16 VSS, T16 VSS (power), T17 VSS, T17 VSS (power), T18 VSS, T18 VSS (power), T19 VDDSHV3, T19 VDDSHV3, T22 GPMC0_AD12, T22 UART4_RX, T24 GPMC0_AD13, T24 UART4_TX, T25 GPMC0_AD10, T25 UART3_RX, U1 DDR0_DQ8, U1 DDR0_DQ8, U2 DDR0_DQ10, U2 DDR0_DQ10, U3 DDR0_DQ9, U3 DDR0_DQ9, U4 RSVD5, U4 RSVD5, U7 CAP_VDDS4, U7 CAP_VDDS4, U8 VSS, U8 VSS (power), U11 VDDA_PLL0, U11 VDDA_PLL0, U12 VDD_CORE, U12 VDD_CORE, U14 VDDR_CORE, U14 VDDR_CORE, U15 VDDA_PLL1, U15 VDDA_PLL1, U18 VDDSHV3, U18 VDDSHV3, U19 VSS, U19 VSS (power), U22 VOUT0_DATA0, U22 PRG0_PRU1_GPIO0, U23 GPMC0_WAIT0, U23 PRG0_PRU0_GPIO14, U24 GPMC0_AD15, U24 UART5_TX, U25 GPMC0_AD14, U25 UART5_RX, V1 DDR0_DQS1, V1 DDR0_DQS1, V2 DDR0_DQS1_N, V2 DDR0_DQS1_N, V5 DDR0_DQ11, V5 DDR0_DQ11, V6 DDR0_DQ13, V6 DDR0_DQ13, V8 VDD_CORE, V8 VDD_CORE, V9 VSS, V9 VSS (power), V10 VSS, V10 VSS (power), V11 VSS, V11 VSS (power), V13 VSS, V13 VSS (power), V15 VDD_CORE, V15 VDD_CORE, V16 VSS, V16 VSS (power), V17 VDD_CORE, V17 VDD_CORE, V18 VSS, V18 VSS (power), V20 VOUT0_DATA10, V20 PRG0_PRU1_GPIO9, V21 VOUT0_DATA8, V21 PRG0_PRU1_GPIO16, V24 VOUT0_DATA1, V24 PRG0_PRU1_GPIO1, V25 GPMC0_WAIT1, V25 GPMC0_WAIT1, W1 DDR0_DQ15, W1 DDR0_DQ15, W2 DDR0_DQ12, W2 DDR0_DQ12, W5 DDR0_DM1, W5 DDR0_DM1, W7 VSS, W7 VSS (power), W9 VDDA_1P8_OLDI0, W9 VDDA_1P8_OLDI0, W10 VDDA_1P8_OLDI0, W10 VDDA_1P8_OLDI0, W12 VDDA_CORE_USB, W12 VDDA_CORE_USB, W13 VDDA_CORE_CSIRX0, W13 VDDA_CORE_CSIRX0, W14 VDDA_1P8_CSIRX0, W14 VDDA_1P8_CSIRX0, W16 VDDSHV2, W16 VDDSHV2, W17 CAP_VDDS2, W17 CAP_VDDS2, W19 VDDSHV2, W19 VDDSHV2, W21 VOUT0_DATA9, W21 PRG0_PRU1_GPIO8, W24 VOUT0_DATA3, W24 PRG0_PRU1_GPIO3, W25 VOUT0_DATA2, W25 PRG0_PRU1_GPIO2, Y1 DDR0_DQ14, Y1 DDR0_DQ14, Y2 VSS, Y2 VSS (power), Y3 MMC0_CMD, Y3 MMC0_CMD, Y4 MMC0_DAT3, Y4 MMC0_DAT3, Y6 OLDI0_A0P, Y6 OLDI0_A0P, Y8 OLDI0_A2N, Y8 OLDI0_A2N, Y11 VDDA_1P8_USB, Y11 VDDA_1P8_USB, Y13 VDDA_3P3_USB, Y13 VDDA_3P3_USB, Y15 RSVD7, Y15 RSVD7, Y18 RGMII2_TD0, Y18 RGMII2_TD0, Y20 VOUT0_DE, Y20 PRG0_PRU1_GPIO17, Y22 VOUT0_DATA14, Y22 PRG0_PRU1_GPIO13, Y23 VOUT0_DATA6, Y23 PRG0_PRU1_GPIO6, Y24 VOUT0_DATA5, Y24 PRG0_PRU1_GPIO5, Y25 VOUT0_DATA4, Y25 PRG0_PRU1_GPIO4
text: DDR 1.1V; DDR 1.8V; SIP Pins; DDR_ZQ

## CPU AM6254
designator CPU?
Quad Core A53; Price: Rs. 3113; ComponentLink1Description: Link; ComponentLink1URL: https://www.ti.com/product/AM625SIP
footprint AM6254
pins: A1 VSS (power), A2 RSVD1, A3 MCU_OSC0_XO, A4 WKUP_UART0_RTS_N, A5 MCU_UART0_TXD, A6 MCU_UART0_CTS_N, A7 MCU_SPI0_CLK, A8 MCU_I2C0_SCL, A9 WKUP_I2C0_SDA, A10 TCK, A11 TDI, A12 WKUP_CLKOUT0, A13 SPI0_CS0, A14 SPI0_CLK, A15 I2C3_SCL, A16 I2C0_SDA, A17 I2C1_SDA, A18 EXT_REFCLK1, A19 MCASP0_AXR2, A20 UART1_TX, A21 MMC1_CMD, A22 MMC1_DAT0, A23 MMC2_SDCD, A24 VSS (power), A25 VSS (power), AA1 MMC0_DAT1, AA2 MMC0_DAT0, AA3 MMC0_DAT2, AA5 OLDI0_A0N, AA7 OLDI0_A3P, AA8 OLDI0_A2P, AA11 VSS (power), AA12 RSVD6, AA14 CSI0_RXRCALIB, AA15 RGMII1_RD3, AA18 RGMII2_TD1, AA19 RGMII2_TTL, AA21 PRG0_PRU1_GPIO14, AA23 PRG0_PRU1_GPIO10, AA24 PRG0_PRU1_GPIO12, AA25 PRG0_PRU1_GPIO7, AB1 MMC0_CLK, AB2 MMC0_DAT4, AB4 OLDI0_A1P, AB6 OLDI0_A3N, AB9 VSS (power), AB10 USB1_VBUS, AB12 CSI0_RXN3, AB14 CSI0_RXN0, AB16 RGMII1_RD2, AB17 RGMII1_RD0, AB20 RGMII2_RD1, AB22 MDIO0_MDIO, AB24 PRG0_PRU1_GPIO15, AB25 PRG0_PRU1_GPIO11, AC1 MMC0_DAT5, AC2 MMC0_DAT7, AC5 OLDI0_A4P, AC6 OLDI0_A4N, AC9 USB1_RCALIB, AC11 USB0_VBUS, AC13 CSI0_RXP3, AC15 CSI0_RXP0, AC17 RGMII1_RD1, AC20 RGMII2_TD3, AC21 RGMII2_RD2, AC24 PRG0_PRU1_GPIO19, AC25 PRG0_PRU1_GPIO1~{8}, AD1 VSS (power), AD2 MMC0_DAT6, AD3 OLDI0_A1N, AD4 OLDI0_CLK0N, AD5 OLDI0_CLK1P, AD6 OLDI0_A5P, AD7 OLDI0_A6P, AD8 OLDI0_A7N, AD9 VSS (power), AD10 USB1_DM, AD11 USB0_DP, AD12 VSS (power), AD13 CSI0_RXN2, AD14 CSI0_RXN1, AD15 CSI0_RXCLKN, AD16 VSS (power), AD17 RGMII1_RXC, AD18 RGMII1_TD3, AD19 RGMII1_TTL, AD20 RGMII1_TD1, AD21 RGMII2_TD2, AD22 RGMII2_RTL, AD23 RGMII2_RXC, AD24 MDIO0_MDC, AD25 VSS (power), AE1 VSS (power), AE2 RSVD3, AE3 OLDI0_CLK0P, AE4 OLDI0_CLK1N, AE5 OLDI0_A5N, AE6 OLDI0_A6N, AE7 OLDI0_A7P, AE8 VSS (power), AE9 USB1_DP, AE10 USB0_RCALIB, AE11 USB0_DM, AE12 VSS (power), AE13 CSI0_RXP2, AE14 CSI0_RXP1, AE15 CSI0_RXCLKP, AE16 VSS (power), AE17 RGMII1_RTL, AE18 RGMII1_TD2, AE19 RGMII1_TXC, AE20 RGMII1_TD0, AE21 RGMII2_TXC, AE22 RGMII2_RD3, AE23 RGMII2_RD0, AE24 VSS (power), AE25 VSS (power), B1 RSVD0, B2 MCU_OSC0_XI, B3 MCU_MCAN0_RX, B4 WKUP_UART0_RXD, B5 MCU_UART0_RXD, B6 MCU_UART0_RTS_N, B7 PMIC_LPM_EN0, B8 MCU_SPI0_CS1, B9 WKUP_I2C0_SCL, B10 TRST_N, B11 TMS, B12 MCU_RESETSTATZ, B13 SPI0_D0, B14 SPI0_D1, B15 I2C3_SDA, B16 I2C0_SCL, B17 I2C1_SCL, B18 MCASP0_AXR1, B19 MCASP0_AXR3, B20 MCASP0_ACLKX, B21 MMC1_DAT1, B22 MMC1_CLK, B23 MMC2_SDWP, B24 MMC2_DAT0, B25 VSS (power), C1 WKUP_LFOSC0_XO, C2 WKUP_LFOSC0_XI, C5 WKUP_UART0_TXD, C6 WKUP_UART0_CTS_N, C9 MCU_SPI0_D1, C11 EMU1, C13 SPI0_CS1, C15 MCAN0_TX, C17 UART6_TX, C20 USB0_DRVVBUS, C21 MMC1_DAT2, C24 MMC2_CMD, C25 MMC2_DAT1, D1 MCU_ERRORN, D2 MCU_PORZ, D4 MCU_MCAN1_RX, D6 MCU_MCAN0_TX, D9 MCU_SPI0_D0, D10 MCU_I2C0_SDA, D12 TDO, D14 UART0_RX, D16 EXTINTN, D17 UART6_RX, D20 MCASP0_AFSX, D22 MMC1_DAT3, D24 MMC2_DAT3, D25 MMC2_CLK, E1 DDR0_DQS0, E2 DDR0_DQS0_N, E3 DDR0_DQ4, E5 MCU_MCAN1_TX, E7 RSVD8, E8 MCU_SPI0_CS0, E11 MCU_RESETZ, E12 EMU0, E14 UART0_TX, E15 MCAN0_RX, E18 MCASP0_AXR0, E19 UART1_RX, E21 PORZ_OUT, E23 MMC2_DAT2, E24 OSPI0_CS3_N, E25 OSPI0_D0, F1 DDR0_DQ7, F2 DDR0_DQ6, F3 DDR0_DQ2, F4 DDR0_DQ0, F6 RSVD2, F8 VDD_CANUART, F11 VDDSHV_MCU, F13 VSS (power), F15 VDDSHV0, F18 USB1_DRVVBUS, F20 RESET_REQZ, F22 RESETSTATZ, F23 OSPI0_CS0_N, F24 OSPI0_D3, F25 OSPI0_D2, G1 DDR0_RESET0_N, G2 DDR0_DQ5, G5 DDR0_DQ1, G7 VDDS_OSC0, G9 CAP_VDDS_CANUART, G10 VMON_1P8_SOC, G12 VDDSHV_MCU, G13 VSS (power), G14 VDDSHV0, G16 VDDA_TEMP1, G17 VDDSHV5, G19 VSS (power), G21 OSPI0_CS1_N, G24 OSPI0_D1, G25 OSPI0_LBCLKO, H1 DDR0_ODT0, H2 DDR0_CKE0, H5 DDR0_DM0, H6 DDR0_DQ3, H8 VDD_CORE, H9 VDDSHV_CANUART, H10 VMON_VSYS, H11 CAP_VDDS_MCU, H13 VSS (power), H15 CAP_VDDS0, H16 VSS (power), H17 CAP_VDDS5, H18 VSS (power), H20 VSS (power), H21 OSPI0_CS2_N, H24 OSPI0_CLK, H25 OSPI0_D6, J1 DDR0_A0, J2 DDR0_A1, J3 DDR0_ODT1, J4 DDR0_CKE1, J7 VSS (power), J8 VPP, J11 VDD_CORE, J12 VDDR_CORE, J13 VSS (power), J14 VDD_CORE, J18 VDDSHV6, J19 CAP_VDDS6, J22 OSPI0_D7, J23 OSPI0_D4, J24 OSPI0_DQS, J25 OSPI0_D5, K1 DDR0_A5, K2 DDR0_CS1_N, K3 DDR0_A2, K4 DDR0_A4, K7 VSS (power), K9 VDDS_DDR, K10 VMON_3P3_SOC, K13 VSS (power), K15 VSS (power), K16 VDDR_CORE, K17 VDD_CORE, K18 CAP_VDDS1, K19 VSS (power), K22 PRG0_PRU0_GPIO19, K24 GPMC0_CS3_N, K25 PRG0_PRU0_GPIO15, L1 DDR0_CK0, L2 DDR0_CK0_N, L5 DDR0_A3, L6 DDR0_CS0_N, L8 VDDS_DDR, L11 VDDA_MCU, L12 VDD_CORE, L14 VDDA_PLL2, L15 VDD_CORE, L18 VDDSHV1, L20 VSS (power), L21 PRG0_PRU0_GPIO18, L23 PRG0_PRU0_GPIO9, L24 PRG0_PRU0_GPIO10, L25 PRG0_PRU0_GPIO11, M1 DDR0_BA0, M2 DDR0_CAL0, M4 DDR0_A15_CAS_N, M5 DDR0_A16_RAS_N, M7 VSS (power), M8 VSS (power), M9 VDDS_DDR, M10 VSS (power), M12 VSS (power), M13 VSS (power), M16 VDD_CORE, M17 VSS (power), M18 VSS (power), M19 VDDSHV1, M21 PRG0_PRU0_GPIO17, M22 PRG0_PRU0_GPIO16, M24 PRG0_PRU0_GPIO12, M25 PRG0_PRU0_GPIO0, N1 DDR0_BA1, N2 DDR0_BG1, N3 DDR0_A14_WE_N, N6 DDR0_ACT_N, N8 VDD_CORE, N11 VDD_CORE, N12 VDDR_CORE, N13 VDD_CORE, N14 VDDR_CORE, N15 VSS (power), N18 VDDSHV3, N20 PRG0_PRU0_GPIO13, N23 PRG0_PRU0_GPIO1, N24 PRG0_PRU0_GPIO2, N25 PRG0_PRU0_GPIO3, P1 DDR0_A8, P2 DDR0_A7, P4 DDR0_A9, P5 DDR0_A11, P7 VSS (power), P9 VDDS_DDR, P10 VSS (power), P13 VSS (power), P16 VDDR_CORE, P17 VDD_CORE, P18 VDDSHV3, P19 CAP_VDDS3, P21 PRG0_PRU0_GPIO6, P22 PRG0_PRU0_GPIO5, P24 PRG0_PRU0_GPIO4, P25 PRG0_PRU0_GPIO8, R1 DDR0_A13, R2 DDR0_A6, R3 DDR0_ALERT_N, R5 DDR0_A10, R6 DDR0_A12, R8 VDDS_DDR, R11 VDD_CORE, R12 VDDR_CORE, R13 VSS (power), R14 VDD_CORE, R15 VSS (power), R18 VSS (power), R20 VSS (power), R21 UART3_TX, R23 PRG0_PRU0_GPIO7, R24 UART2_RX, R25 UART2_TX, T1 DDR0_PAR, T2 RSVD4, T4 DDR0_BG0, T7 VDDSHV4, T8 VSS (power), T9 VDDA_TEMP0, T10 VDDR_CORE, T13 VSS (power), T14 VSS (power), T16 VSS (power), T17 VSS (power), T18 VSS (power), T19 VDDSHV3, T22 UART4_RX, T24 UART4_TX, T25 UART3_RX, U1 DDR0_DQ8, U2 DDR0_DQ10, U3 DDR0_DQ9, U4 RSVD5, U7 CAP_VDDS4, U8 VSS (power), U11 VDDA_PLL0, U12 VDD_CORE, U14 VDDR_CORE, U15 VDDA_PLL1, U18 VDDSHV3, U19 VSS (power), U22 PRG0_PRU1_GPIO0, U23 PRG0_PRU0_GPIO14, U24 UART5_TX, U25 UART5_RX, V1 DDR0_DQS1, V2 DDR0_DQS1_N, V5 DDR0_DQ11, V6 DDR0_DQ13, V8 VDD_CORE, V9 VSS (power), V10 VSS (power), V11 VSS (power), V13 VSS (power), V15 VDD_CORE, V16 VSS (power), V17 VDD_CORE, V18 VSS (power), V20 PRG0_PRU1_GPIO9, V21 PRG0_PRU1_GPIO16, V24 PRG0_PRU1_GPIO1, V25 GPMC0_WAIT1, W1 DDR0_DQ15, W2 DDR0_DQ12, W5 DDR0_DM1, W7 VSS (power), W9 VDDA_1P8_OLDI0, W10 VDDA_1P8_OLDI0, W12 VDDA_CORE_USB, W13 VDDA_CORE_CSIRX0, W14 VDDA_1P8_CSIRX0, W16 VDDSHV2, W17 CAP_VDDS2, W19 VDDSHV2, W21 PRG0_PRU1_GPIO8, W24 PRG0_PRU1_GPIO3, W25 PRG0_PRU1_GPIO2, Y1 DDR0_DQ14, Y2 VSS (power), Y3 MMC0_CMD, Y4 MMC0_DAT3, Y6 OLDI0_A0P, Y8 OLDI0_A2N, Y11 VDDA_1P8_USB, Y13 VDDA_3P3_USB, Y15 RSVD7, Y18 RGMII2_TD0, Y20 PRG0_PRU1_GPIO17, Y22 PRG0_PRU1_GPIO13, Y23 PRG0_PRU1_GPIO6, Y24 PRG0_PRU1_GPIO5, Y25 PRG0_PRU1_GPIO4
text: DDR 1.1V; DDR 1.8V; SIP Pins; DDR_ZQ

## CPU AM6442
designator CPU?
Dual Core A53 Quad Core R5F 12 Core PRU; MANUFACTURER_NAME: Texas Instruments; GateName_1: G$1; SymbolName_1: AM6442BSDGHAALV; LibraryName: TOTUDU; DeviceSetName: AM6442BSDGHAALV; Package: BGA441C80P21X21_1720X1720X265; HEIGHT: 2.652mm; MANUFACTURER_PART_NUMBER: AM6442BSDGHAALV; MOUSER_PRICE-STOCK: https://www.mouser.co.uk/ProductDetail/Texas-Instruments/AM6442BSDGHAALV?qs=9vOqFld9vZW%2FXHhHYd31hA%3D%3D
footprint AM6442
pins: A1 VSS_1, A2 DDR0_DQ1, A3 DDR0_DQ0, A4 DDR0_DQ3, A5 VSS_2, A6 VSS_3, A7 MCU_SPI1__CS0, A8 MCU_UART0__TXD, A9 MCU_UART0__RXD, A10 MCU_I2C0__SDA, A11 MCU_I2C1__SCL, A12 TDO, A13 SPI0_D0, A14 SPI0_D1, A15 SPI1_D1, A16 UART0__RTS, A17 MCAN0_TX, A18 I2C0_SCL, A19 EXT_REFCLK1, A20 MCU_SAFETY_ERROR, A21 VSS_4, AA1 VSS_63, AA2 PRG0_PRU0__GPO4, AA3 PRG0_PRU0__GPO12, AA4 PRG0_PRU1__GPO16, AA5 PRG0_PRU0__GPO10, AA6 PRG1__MDIO__MDI, AA7 PRG1_PRU0__GPO6, AA8 PRG1_PRU0__GPO11, AA9 PRG1_PRU0__GPO14, AA10 PRG1_PRU1__GPO11, AA11 PRG1_PRU1__GPO14, AA12 PRG1_PRU1__GPO2, AA13 PRG1_PRU1__GPO5, AA14 PRG1_PRU1__GPO17, AA15 VSS_64, AA16 SERDES0__TX0_N, AA17 SERDES0__TX0_P, AA18 VSS_65, AA19 USB0_DP, AA20 USB0_DM, AA21 VSS_66, B1 DDR0_DQS0_N, B2 DDR0_DM0, B3 DDR0_DQ4, B4 DDR0_DQ7, B5 DDR0_DQ2, B6 MCU_SPI0__D1, B7 MCU_SPI1__CS1, B8 MCU_UART1__CTSN, B9 MCU_UART1__RTSN, B10 MCU_I2C1__SDA, B11 TCK, B12 MCU_RESETZ(Warm Reset), B13 MCU_RESET_STATZ, B14 SPI1_CS0, B15 SPI1_D0, B16 UART0__CTSN, B17 MCAN0_RX, B18 I2C0_SDA, B19 I2C1_SDA, B20 MCU_OSC0__XO, B21 MCU_PORZ(Cold Reset), C1 DDR0_DQS0_P, C2 DDR0_DQ6, C3 VSS_5, C4 DDR0_DQ5, C5 DDR0_A1, C6 MCU_SPI0__CS1, C7 MCU_SPI1__D0, C8 MCU_SPI1__D1, C9 MCU_UART1__RXD, C10 VSS_6, C11 TDI, C12 TMS, C13 SPI0_CS1, C14 SPI1_CLK, C15 VSS_7, C16 UART0_TXD, C17 MCAN1_TX, C18 I2C1_SCL, C19 EXTINTN, C20 MMC1_SDWP, C21 MCU_OSC0__XI, D1 VSS_8, D2 DDR0_A0, D3 DDR0_A4, D4 DDR0_A3, D5 DDR0_RESET0_N, D6 MCU_SPI0__CS0, D7 MCU_SPI1__CLK, D8 MCU_UART0__CTSN, D9 MCU_UART1__TXD, D10 EMU0, D11 TRSTN, D12 SPI0_CS0, D13 SPI0_CLK, D14 SPI1_CS1, D15 UART0_RXD, D16 UART1__CTSN, D17 MCAN1_RX, D18 ECAP0_IN_APWM_OUT, D19 MMC1_SDCD, D20 ADC0_AIN3, D21 RSVD1, E1 DDR0_CK0_N, E2 DDR0_A2, E3 DDR0_CS0_N, E4 DDR0_CS1_N, E5 DDR0_ODT0, E6 MCU_SPI0__CLK, E7 MCU_SPI0__D0, E8 MCU_UART0__RTSN, E9 MCU_I2C0__SCL, E10 EMU1, E11 VSS_9, E12 VMON_1P8_SOC, E13 VSS_10, E14 UART1_TXD, E15 UART1_RXD, E16 UART1__RTS, E17 PORZ_OUT, E18 RESET__REQ(Warm Reset), E19 USB0_DRVVBUS, E20 ADC0_AIN7, E21 ADC0_AIN2, F1 DDR0_CK0_P, F2 DDR0_A5, F3 DDR0_CKE1, F4 DDR0_CKE0, F5 DDR0_ODT1, F6 DDR0_RAS_N, F7 VDDS_DDR_1, F8 VSS_11, F9 VDDSHV_MCU_1, F10 VSS_12, F11 VDDSHV0_1, F12 RSVD8, F13 VMON_3P3_MCU, F14 VMON_3P3_SOC, F15 VSS_13, F16 RESETSTA_TZ, F17 RSVD3, F18 MMC0_CALPAD, F19 ADC0_AIN6, F20 ADC0_AIN1, F21 ADC0_AIN5, G1 VSS_14, G2 DDR0_BG0, G3 VSS_15, G4 DDR0_BA0, G5 DDR0_BA1, G6 VDDS_DDR_2, G7 VSS_16, G8 VDDSHV_MCU_2, G9 VSS_17, G10 VDDSHV_MCU_3, G11 VDDA_TEMP0, G12 VDDSHV0_2, G13 RSVD2, G14 VDDSHV0_3, G15 VPP, G16 VSS_18, G17 MMC0_DAT7, G18 MMC0_CLK, G19 MMC0_DS, G20 ADC0_AIN0, G21 ADC0_AIN4, H1 DDR0_ALERT_N, H2 DDR0_ACT_N, H3 DDR0_BG1, H4 DDR0_WE_N, H5 DDR0_CAL0, H6 VSS_19, H7 VDDS_DDR_3, H8 VSS_20, H9 VDDA_PLL1, H10 CAP_VDDS_MCU, H11 VSS_21, H12 CAP_VDDS0, H13 VDDS_OSC, H14 VDD_MMC0_DLL, H15 VDDA_3P3_SDIO, H16 RSVD0, H17 MMC0_DAT4, H18 MMC0_DAT6, H19 MMC0_DAT5, H20 VSS_22, H21 VSS_23, J1 DDR0_A11, J2 DDR0_A6, J3 DDR0_A8, J4 DDR0_A9, J5 DDR0_CAS_N, J6 VDDS_DDR_4, J7 VSS_24, J8 VDDS_DDR_C, J9 VSS_25, J10 VDD_CORE_1, J11 VDDA_PLL2, J12 VDD_CORE_2, J13 VDDA_ADC, J14 VSS_26, J15 ADC0_REFP, J16 ADC0_REFN, J17 MMC0_DAT3, J18 MMC0_DAT2, J19 MMC1_CMD, J20 MMC0_DAT1, J21 MMC0_CMD, K1 RSVD7, K2 RSVD6, K3 DDR0_A10, K4 DDR0_A13, K5 DDR0_PAR, K6 VSS_27, K7 VDDS_DDR_5, K8 VSS_28, K9 VDD_CORE_3, K10 VMON_VSYS, K11 VDD_CORE_4, K12 VDDA_MCU, K13 VDD_MMC0, K14 VDDS_MMC0, K15 CAP_VDDSHV_MMC1, K16 VMON_1P8_MCU, K17 OSPI0_CSN2, K18 MMC1_DAT3, K19 MMC1_DAT2, K20 MMC0_DAT0, K21 MMC1_DAT0, L1 VSS_29, L2 DDR0_DQ10, L3 VSS_30, L4 DDR0_DQ9, L5 DDR0_A7, L6 VDDS_DDR_6, L7 VSS_31, L8 VDD_CORE_5, L9 VSS_32, L10 VDDR_CORE_1, L11 VDDA_TEMP1, L12 VDD_CORE_6, L13 CAP_VDDS5, L14 VDDSHV5_1, L15 VDDSHV5_2, L16 VSS_33, L17 OSPI0_CSN3, L18 OSPI0_CSN1, L19 OSPI0_CSN0, L20 MMC1_CLK, L21 MMC1_DAT1, M1 DDR0_DQS1_N, M2 DDR0_DM1, M3 DDR0_DQ11, M4 DDR0_DQ14, M5 DDR0_A12, M6 VSS_34, M7 VDDSHV1_1, M8 VSS_35, M9 VDD_CORE_7, M10 VSS_36, M11 VDD_CORE_8, M12 VSS_37, M13 VDDR_CORE_2, M14 VDDSHV4_1, M15 VDDSHV4_2, M16 CAP_VDDS4, M17 OSPI0_D7, M18 OSPI0_D1, M19 OSPI0_D0, M20 OSPI0_D2, M21 OSPI0_D3, N1 DDR0_DQS1_P, N2 DDR0_DQ15, N3 DDR0_DQ13, N4 DDR0_DQ12, N5 DDR0_DQ8, N6 VDDSHV1_2, N7 VSS_38, N8 VDD_CORE_9, N9 VSS_39, N10 VDD_CORE_10, N11 VSS_40, N12 VDDA_PLL0, N13 VSS_41, N14 CAP_VDDS3, N15 VSS_42, N16 GPMC0_WPN, N17 GPMC0_DIR, N18 OSPI0_D6, N19 OSPI0_DQS, N20 OSPI0_CLK, N21 OSPI0_LBCLKO, P1 VSS_43, P2 PRG0__MDIO__MDI, P3 PRG0__MDIO__MDC, P4 PRG0_PRU1__GPO5, P5 PRG0_PRU1__GPO18, P6 VSS_44, P7 VDDSHV1_3, P8 VSS_45, P9 VDD_CORE_11, P10 VSS_46, P11 VDDA_0P85_SERDES0_C, P12 VDDA_0P85_SERDES0_1, P13 VDDA_0P85_SERDES0_2, P14 VDDSHV3_1, P15 VDDSHV3_2, P16 GPMC0_ADVN_ALE, P17 GPMC0_BE0N_CLE, P18 VSS_47, P19 GPMC0_CSN2, P20 OSPI0_D5, P21 OSPI0_D4, R1 PRG0_PRU1__GPO8, R2 PRG0_PRU1__GPO19, R3 PRG0_PRU0__GPO5, R4 PRG0_PRU0__GPO1, R5 PRG0_PRU1__GPO6, R6 PRG0_PRU0__GPO13, R7 VSS_48, R8 VDDSHV2_1, R9 VSS_49, R10 VDDSHV2_2, R11 CAP_VDDS2, R12 VSS_50, R13 VDDA_3P3_USB, R14 VDDA_1P8_SERDES, R15 VDDA_1P8_USB, R16 GPMC0_AD10, R17 GPMC0_CLK, R18 GPMC0_OEN_REN, R19 GPMC0_CSN0, R20 GPMC0_CSN1, R21 GPMC0_CSN3, T1 PRG0_PRU0__GPO7, T2 PRG0_PRU0__GPO8, T3 PRG0_PRU0__GPO6, T4 PRG0_PRU1__GPO3, T5 PRG0_PRU0__GPO15, T6 PRG0_PRU1__GPO13, T7 CAP_VDDS1C, T8 VSS_51, T9 VDDSHV2_3, T10 VSS_52, T11 VSS_53, T12 VDDA_0P85_USB, T13 SERDES0__REXT, T14 USB0_VBUS, T15 VSS_54, T16 VSS_55, T17 GPMC0_AD9, T18 GPMC0_AD2, T19 GPMC0_BE1N, T20 GPMC0_AD0, T21 GPMC0_WEN, U1 PRG0_PRU0__GPO17, U2 PRG0_PRU0__GPO2, U3 VSS_56, U4 PRG0_PRU0__GPO16, U5 PRG0_PRU1__GPO15, U6 PRG0_PRU1__GPO14, U7 PRG1_PRU0__GPO17, U8 PRG1_PRU0__GPO1, U9 PRG1_PRU0__GPO12, U10 PRG1_PRU1__GPO13, U11 PRG1_PRU1__GPO6, U12 PRG1_PRU1__GPO8, U13 PRG1_PRU0__GPO7, U14 PRG1_PRU0__GPO10, U15 PRG1_PRU0__GPO9, U16 USB0_ID, U17 USB0_RCALIB, U18 GPMC0_AD4, U19 GPMC0_AD5, U20 GPMC0_AD3V, U21 GPMC0_AD1, V1 PRG0_PRU0__GPO18, V2 PRG0_PRU0__GPO3, V3 PRG0_PRU1__GPO2, V4 PRG0_PRU0__GPO14, V5 PRG0_PRU1__GPO17, V6 PRG0_PRU1__GPO10, V7 PRG1_PRU0__GPO18, V8 PRG1_PRU0__GPO3, V9 PRG1_PRU0__GPO16, V10 PRG1_PRU1__GPO12, V11 PRG1_PRU1__GPO1, V12 PRG1_PRU1__GPO19, V13 PRG1_PRU0__GPO5, V14 PRG1_PRU1__GPO9, V15 PRG1_PRU1__GPO7, V16 RSVD5, V17 VSS_57, V18 GPMC0_AD13, V19 GPMC0_AD8, V20 GPMC0_AD6, V21 GPMC0_AD7, W1 PRG0_PRU0__GPO19, W2 PRG0_PRU1__GPO1, W3 PRG0_PRU1__GPO4, W4 PRG0_PRU1__GPO11, W5 PRG0_PRU1__GPO7, W6 PRG0_PRU0__GPO9, W7 PRG1_PRU0__GPO19, W8 PRG1_PRU0__GPO2, W9 PRG1_PRU0__GPO13, W10 VSS_58, W11 PRG1_PRU1__GPO0, W12 PRG1_PRU1__GPO4, W13 PRG1_PRU0__GPO8, W14 PRG1_PRU1__GPO10, W15 RSVD4, W16 SERDES0_REFCLK0N, W17 SERDES0_REFCLKOP, W18 VSS_59, W19 GPMC0_WAIT0, W20 GPMC0_AD11, W21 GPMC0_AD12, Y1 PRG0_PRU0__GPO0, Y2 PRG0_PRU1__GPO0, Y3 PRG0_PRU0__GPO11, Y4 PRG0_PRU1__GPO12, Y5 PRG0_PRU1__GPO9, Y6 PRG1__MDIO__MDC, Y7 PRG1_PRU0__GPO0, Y8 PRG1_PRU0__GPO4, Y9 PRG1_PRU0__GPO15, Y10 PRG1_PRU1__GPO16, Y11 PRG1_PRU1__GPO15, Y12 PRG1_PRU1__GPO3, Y13 PRG1_PRU1__GPO18, Y14 VSS_60, Y15 SERDES0__RX0_N, Y16 SERDES0__RX0_P, Y17 VSS_61, Y18 GPMC0_WAIT1, Y19 VSS_62, Y20 GPMC0_AD15, Y21 GPMC0_AD14

## CPU TEENSY4.2
designator CPU?
Cortex M7; GateName_1: G$1; SymbolName_1: TEENSY4.1; DeviceName: 2D; LibraryName: TOTUDU; DeviceSetName: TEENSY4.1; Package: TEENSY4.12D
footprint TEENSY4.12D
pins: 0 (io), 1 (io), 2 (io), 3 (io), 3.330-332 3.3V (io), 4 (io), 5 (io), 5VUSB (io), 6 (io), 7 (io), 8 (io), 9 (io), 10 (io), 11 (io), 12 (io), 13 (io), 14 (io), 15 (io), 16 (io), 17 (io), 18 (io), 19 (io), 20 (io), 21 (io), 22 (io), 23 (io), 24 (io), 25 (io), 26 (io), 27 (io), 28 (io), 29 (io), 30 (io), 31 (io), 32 (io), 33 (io), 34 (io), 35 (io), 36 (io), 37 (io), 38 (io), 39 (io), 40 (io), 41 (io), 550,51 5V (io), D+ (io), D- (io), ELED (io), GND0,GND1,GND2,GND3,GND4,GND5,GND6 GND (io), ON/OFF (io), PROGRAM (io), R+ (io), R- (io), T+ (io), T- (io), VBAT (io)

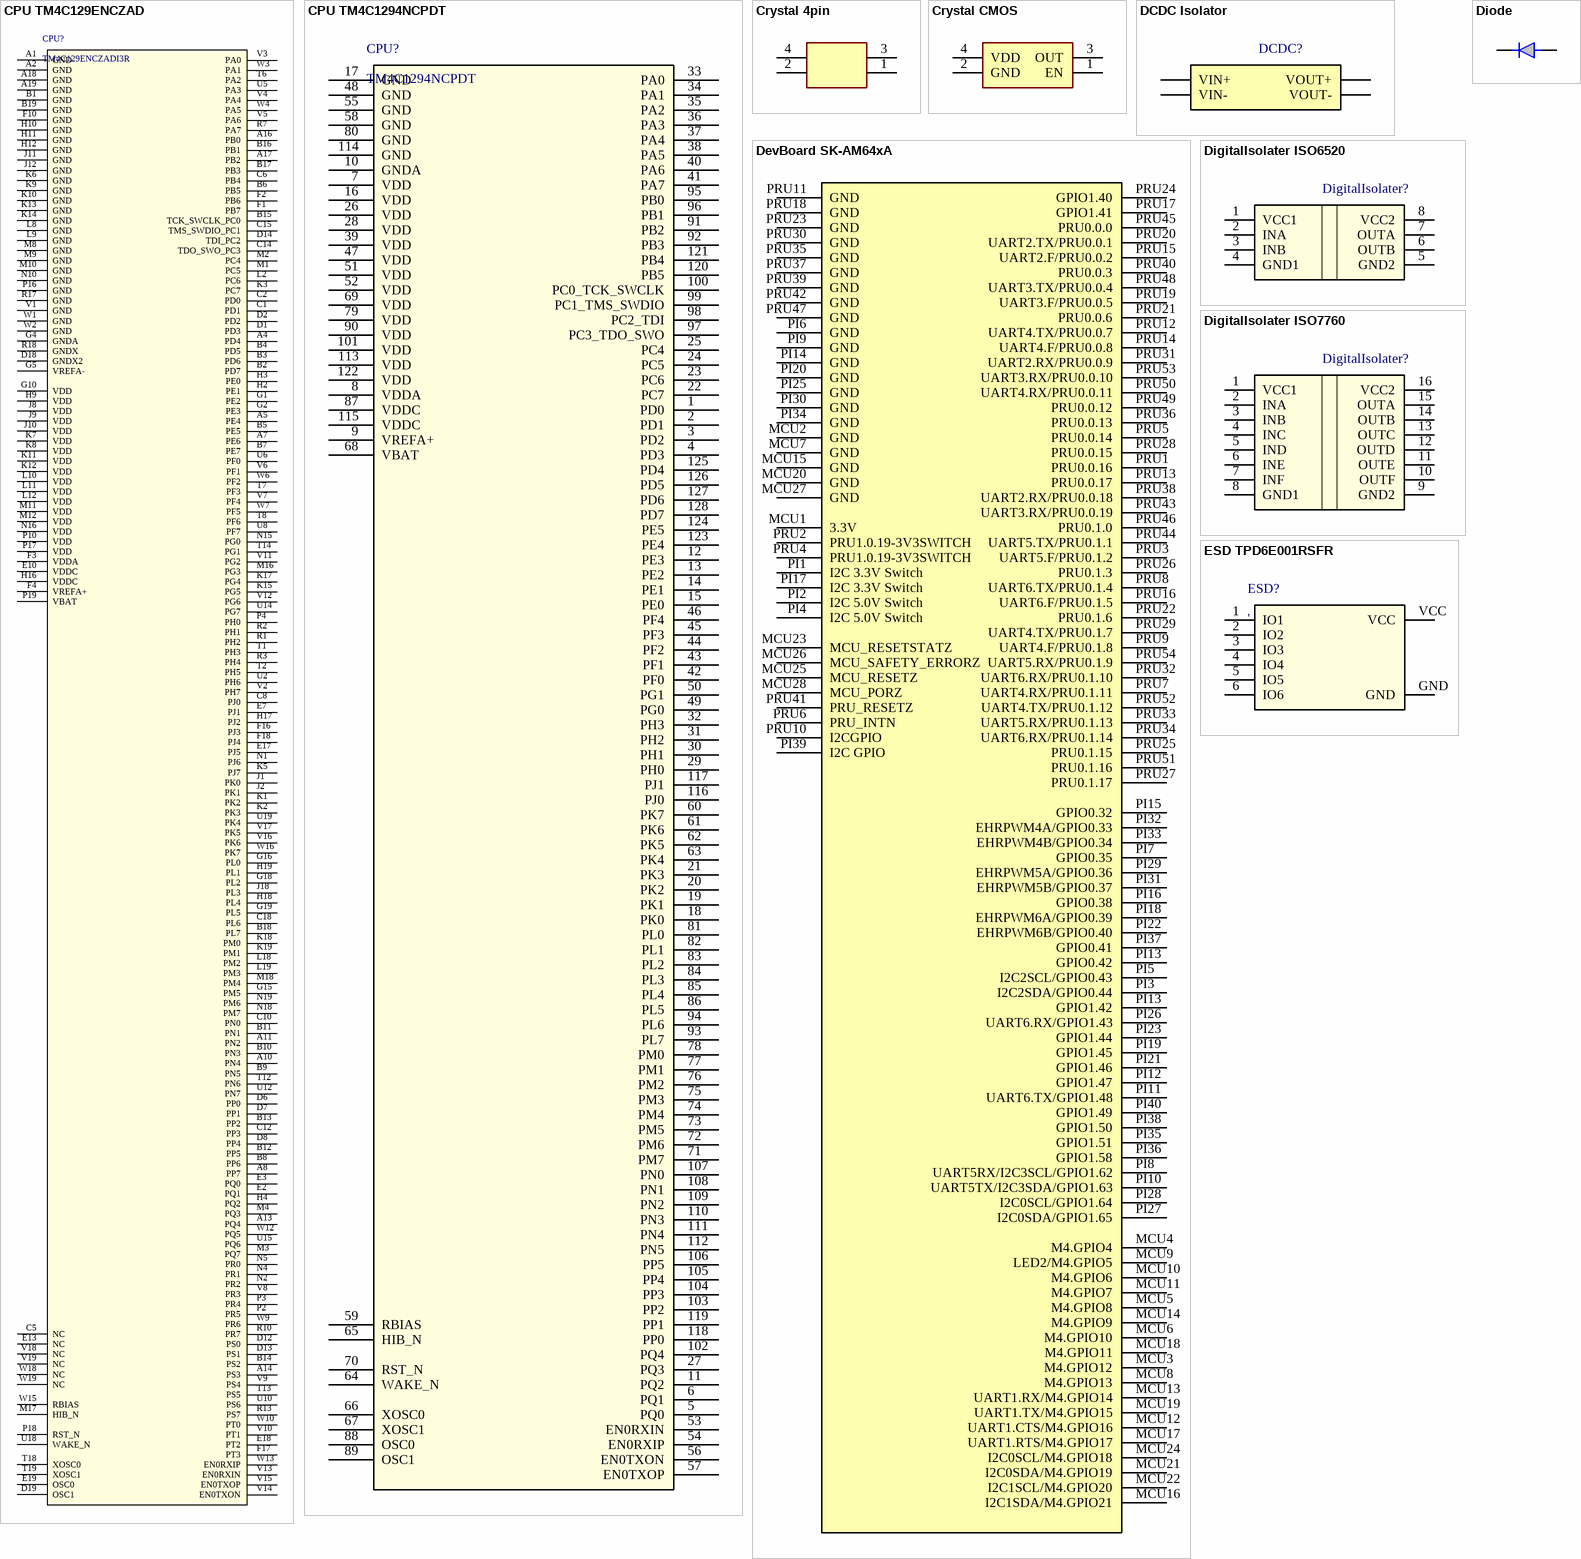
[diagram p2: symbols CPU TM4C129ENCZAD to ESD TPD6E001RSFR]

## CPU TM4C129ENCZAD
designator CPU?, comment TM4C129ENCZADI3R
M4F
footprint TM4C129ENCZAD
pins: A1 GND, A2 GND, A4 PD4, A5 PE4, A7 PE6, A8 PP7, A10 PN4, A11 PN2, A13 PQ4, A14 PS3, A16 PB0, A17 PB2, A18 GND, A19 GND, B1 GND, B2 PD7, B3 PD6, B4 PD5, B5 PE5, B6 PB5, B7 PE7, B8 PP6, B9 PN5, B10 PN3, B11 PN1, B12 PP5, B13 PP2, B14 PS2, B15 TCK_SWCLK_PC0, B16 PB1, B17 PB3, B18 PL7, B19 GND, C1 PD1, C2 PD0, C5 NC, C6 PB4, C8 PJ0, C10 PN0, C12 PP3, C14 TDO_SWO_PC3, C15 TMS_SWDIO_PC1, C18 PL6, D1 PD3, D2 PD2, D6 PP0, D7 PP1, D8 PP4, D12 PS0, D13 PS1, D14 TDI_PC2, D18 GNDX2, D19 OSC1, E2 PQ1, E3 PQ0, E7 PJ1, E10 VDDC, E13 NC, E17 PJ5, E18 PT2, E19 OSC0, F1 PB7, F2 PB6, F3 VDDA, F4 VREFA+, F10 GND, F16 PJ3, F17 PT3, F18 PJ4, G1 PE2, G2 PE3, G4 GNDA, G5 VREFA-, G10 VDD, G15 PM5, G16 PL0, G18 PL2, G19 PL5, H2 PE1, H3 PE0, H4 PQ2, H9 VDD, H10 GND, H11 GND, H12 GND, H16 VDDC, H17 PJ2, H18 PL4, H19 PL1, J1 PK0, J2 PK1, J8 VDD, J9 VDD, J10 VDD, J11 GND, J12 GND, J18 PL3, K1 PK2, K2 PK3, K3 PC7, K5 PJ7, K6 GND, K7 VDD, K8 VDD, K9 GND, K10 GND, K11 VDD, K12 VDD, K13 GND, K14 GND, K15 PG5, K17 PG4, K18 PM0, K19 PM1, L2 PC6, L8 GND, L9 GND, L10 VDD, L11 VDD, L12 VDD, L18 PM2, L19 PM3, M1 PC5, M2 PC4, M3 PQ7, M4 PQ3, M8 GND, M9 GND, M10 GND, M11 VDD, M12 VDD, M16 PG3, M17 HIB_N, M18 PM4, N1 PJ6, N2 PR2, N4 PR1, N5 PR0, N10 GND, N15 PG0, N16 VDD, N18 PM7, N19 PM6, P2 PR5, P3 PR4, P4 PH0, P10 VDD, P16 GND, P17 VDD, P18 RST_N, P19 VBAT, R1 PH2, R2 PH1, R3 PH4, R7 PA7, R10 PR7, R13 PS7, R17 GND, R18 GNDX, T1 PH3, T2 PH5, T6 PA2, T7 PF3, T8 PF6, T12 PN6, T13 PS5, T14 PG1, T18 XOSC0, T19 XOSC1, U2 PH6, U5 PA3, U6 PF0, U8 PF7, U10 PS6, U12 PN7, U14 PG7, U15 PQ6, U18 WAKE_N, U19 PK4, V1 GND, V2 PH7, V3 PA0, V4 PA4, V5 PA6, V6 PF1, V7 PF4, V8 PR3, V9 PS4, V10 PT1, V11 PG2, V12 PG6, V13 EN0RXIN, V14 EN0TXON, V15 EN0TXOP, V16 PK6, V17 PK5, V18 NC, V19 NC, W1 GND, W2 GND, W3 PA1, W4 PA5, W6 PF2, W7 PF5, W9 PR6, W10 PT0, W12 PQ5, W13 EN0RXIP, W15 RBIAS, W16 PK7, W18 NC, W19 NC

## CPU TM4C1294NCPDT
designator CPU?, comment TM4C1294NCPDT
M4F
footprint TM4C1294NCPDT
pins: 1 PD0, 2 PD1, 3 PD2, 4 PD3, 5 PQ0, 6 PQ1, 7 VDD, 8 VDDA, 9 VREFA+, 10 GNDA, 11 PQ2, 12 PE3, 13 PE2, 14 PE1, 15 PE0, 16 VDD, 17 GND, 18 PK0, 19 PK1, 20 PK2, 21 PK3, 22 PC7, 23 PC6, 24 PC5, 25 PC4, 26 VDD, 27 PQ3, 28 VDD, 29 PH0, 30 PH1, 31 PH2, 32 PH3, 33 PA0, 34 PA1, 35 PA2, 36 PA3, 37 PA4, 38 PA5, 39 VDD, 40 PA6, 41 PA7, 42 PF0, 43 PF1, 44 PF2, 45 PF3, 46 PF4, 47 VDD, 48 GND, 49 PG0, 50 PG1, 51 VDD, 52 VDD, 53 EN0RXIN, 54 EN0RXIP, 55 GND, 56 EN0TXON, 57 EN0TXOP, 58 GND, 59 RBIAS, 60 PK7, 61 PK6, 62 PK5, 63 PK4, 64 WAKE_N, 65 HIB_N, 66 XOSC0, 67 XOSC1, 68 VBAT, 69 VDD, 70 RST_N, 71 PM7, 72 PM6, 73 PM5, 74 PM4, 75 PM3, 76 PM2, 77 PM1, 78 PM0, 79 VDD, 80 GND, 81 PL0, 82 PL1, 83 PL2, 84 PL3, 85 PL4, 86 PL5, 87 VDDC, 88 OSC0, 89 OSC1, 90 VDD, 91 PB2, 92 PB3, 93 PL7, 94 PL6, 95 PB0, 96 PB1, 97 PC3_TDO_SWO, 98 PC2_TDI, 99 PC1_TMS_SWDIO, 100 PC0_TCK_SWCLK, 101 VDD, 102 PQ4, 103 PP2, 104 PP3, 105 PP4, 106 PP5, 107 PN0, 108 PN1, 109 PN2, 110 PN3, 111 PN4, 112 PN5, 113 VDD, 114 GND, 115 VDDC, 116 PJ0, 117 PJ1, 118 PP0, 119 PP1, 120 PB5, 121 PB4, 122 VDD, 123 PE4, 124 PE5, 125 PD4, 126 PD5, 127 PD6, 128 PD7

## Crystal 4pin
designator Crystal?
Crystal 4pin; Manufacturer_Name: ECS; Manufacturer_Part_Number: ECS-2520MV-250-CN-TR; Geometry.Height: 0.9mm; Mouser Part Number: 520-2520MV-250-CN-T; Mouser Price/Stock: https://www.mouser.co.uk/ProductDetail/ECS/ECS-2520MV-250-CN-TR?qs=fAHHVMwC%252BbiTva9uv8VI%2Fw%3D%3D; Datasheet Link: https://www.arrow.com/en/products/ecs-2520mv-250-cn-tr/ecs-international
footprint Crystal 2.5x2mm
footprint Crystal 3.2x2.5mm
pins: 1, 2, 3, 4

## Crystal CMOS
designator Crystal?
Crystal Oscilator CMOS Output; Manufacturer_Name: ECS; Manufacturer_Part_Number: ECS-2520MV-250-CN-TR; Geometry.Height: 0.9mm; Mouser Part Number: 520-2520MV-250-CN-T; Mouser Price/Stock: https://www.mouser.co.uk/ProductDetail/ECS/ECS-2520MV-250-CN-TR?qs=fAHHVMwC%252BbiTva9uv8VI%2Fw%3D%3D; Datasheet Link: https://www.arrow.com/en/products/ecs-2520mv-250-cn-tr/ecs-international
footprint CDC6CE025000ADLER (Crystal Clock Generator 25Mhz)
footprint LMK6CE02500DDLER (Crystal Clock Generator 25Mhz)
footprint LFSPXO018044
footprint LMK6CE016000CDLER (Crystal Clock Generator 16Mhz 3.3V)
pins: 1 EN, 2 GND, 3 OUT, 4 VDD

## DCDC Isolator
designator DCDC?
footprint HiLink DCDC 2W
footprint HiLink DCDC 1W
pins: VIN+, VIN-, VOUT+, VOUT-

## DevBoard SK-AM64xA
designator DevBoard
footprint DevBoard SKAM64XA
pins: MCU1 3.3V, MCU2 GND, MCU3 M4.GPIO12, MCU4 M4.GPIO4, MCU5 M4.GPIO8, MCU6 M4.GPIO10, MCU7 GND, MCU8 M4.GPIO13, MCU9 LED2/M4.GPIO5, MCU10 M4.GPIO6, MCU11 M4.GPIO7, MCU12 UART1.CTS/M4.GPIO16, MCU13 UART1.RX/M4.GPIO14, MCU14 M4.GPIO9, MCU15 GND, MCU16 I2C1SDA/M4.GPIO21, MCU17 UART1.RTS/M4.GPIO17, MCU18 M4.GPIO11, MCU19 UART1.TX/M4.GPIO15, MCU20 GND, MCU21 I2C0SDA/M4.GPIO19, MCU22 I2C1SCL/M4.GPIO20, MCU23 MCU_RESETSTATZ, MCU24 I2C0SCL/M4.GPIO18, MCU25 MCU_RESETZ, MCU26 MCU_SAFETY_ERRORZ, MCU27 GND, MCU28 MCU_PORZ, PI1 I2C 3.3V Switch, PI2 I2C 5.0V Switch, PI3 I2C2SDA/GPIO0.44, PI4 I2C 5.0V Switch, PI5 I2C2SCL/GPIO0.43, PI6 GND, PI7 GPIO0.35, PI8 UART5RX/I2C3SCL/GPIO1.62, PI9 GND, PI10 UART5TX/I2C3SDA/GPIO1.63, PI11 UART6.TX/GPIO1.48, PI12 GPIO1.47, PI13 GPIO0.42, PI13 GPIO1.42, PI14 GND, PI15 GPIO0.32, PI16 GPIO0.38, PI17 I2C 3.3V Switch, PI18 EHRPWM6A/GPIO0.39, PI19 GPIO1.45, PI20 GND, PI21 GPIO1.46, PI22 EHRPWM6B/GPIO0.40, PI23 GPIO1.44, PI25 GND, PI26 UART6.RX/GPIO1.43, PI27 I2C0SDA/GPIO1.65, PI28 I2C0SCL/GPIO1.64, PI29 EHRPWM5A/GPIO0.36, PI30 GND, PI31 EHRPWM5B/GPIO0.37, PI32 EHRPWM4A/GPIO0.33, PI33 EHRPWM4B/GPIO0.34, PI34 GND, PI35 GPIO1.51, PI36 GPIO1.58, PI37 GPIO0.41, PI38 GPIO1.50, PI39 I2C GPIO, PI40 GPIO1.49, PRU1 PRU0.0.16, PRU2 PRU1.0.19-3V3SWITCH, PRU3 UART5.F/PRU0.1.2, PRU4 PRU1.0.19-3V3SWITCH, PRU5 PRU0.0.14, PRU6 PRU_INTN, PRU7 UART4.RX/PRU0.1.11, PRU8 UART6.TX/PRU0.1.4, PRU9 UART4.F/PRU0.1.8, PRU10 I2CGPIO, PRU11 GND, PRU12 UART4.TX/PRU0.0.7, PRU13 PRU0.0.17, PRU14 UART4.F/PRU0.0.8, PRU15 UART2.F/PRU0.0.2, PRU16 UART6.F/PRU0.1.5, PRU17 GPIO1.41, PRU18 GND, PRU19 UART3.F/PRU0.0.5, PRU20 UART2.TX/PRU0.0.1, PRU21 PRU0.0.6, PRU22 PRU0.1.6, PRU23 GND, PRU24 GPIO1.40, PRU25 PRU0.1.15, PRU26 PRU0.1.3, PRU27 PRU0.1.17, PRU28 PRU0.0.15, PRU29 UART4.TX/PRU0.1.7, PRU30 GND, PRU31 UART2.RX/PRU0.0.9, PRU32 UART6.RX/PRU0.1.10, PRU33 UART5.RX/PRU0.1.13, PRU34 UART6.RX/PRU0.1.14, PRU35 GND, PRU36 PRU0.0.13, PRU37 GND, PRU38 UART2.RX/PRU0.0.18, PRU39 GND, PRU40 PRU0.0.3, PRU41 PRU_RESETZ, PRU42 GND, PRU43 UART3.RX/PRU0.0.19, PRU44 UART5.TX/PRU0.1.1, PRU45 PRU0.0.0, PRU46 PRU0.1.0, PRU47 GND, PRU48 UART3.TX/PRU0.0.4, PRU49 PRU0.0.12, PRU50 UART4.RX/PRU0.0.11, PRU51 PRU0.1.16, PRU52 UART4.TX/PRU0.1.12, PRU53 UART3.RX/PRU0.0.10, PRU54 UART5.RX/PRU0.1.9

## DigitalIsolater ISO6520
designator DigitalIsolater?
2 Channel Digital Isolator; Datasheet: https://www.ti.com/lit/gpn/iso7760; Price: Rs. 114
footprint ISO6520D
pins: 1 VCC1 (power), 2 INA, 3 INB, 4 GND1 (power), 5 GND2 (power), 6 OUTB, 7 OUTA, 8 VCC2 (power)